# Altium integrated library Actel IGLOO nano.IntLib: 240 symbols (part 1 of 14)
Pins are listed as number, name and electrical type; pins without a type are passive.

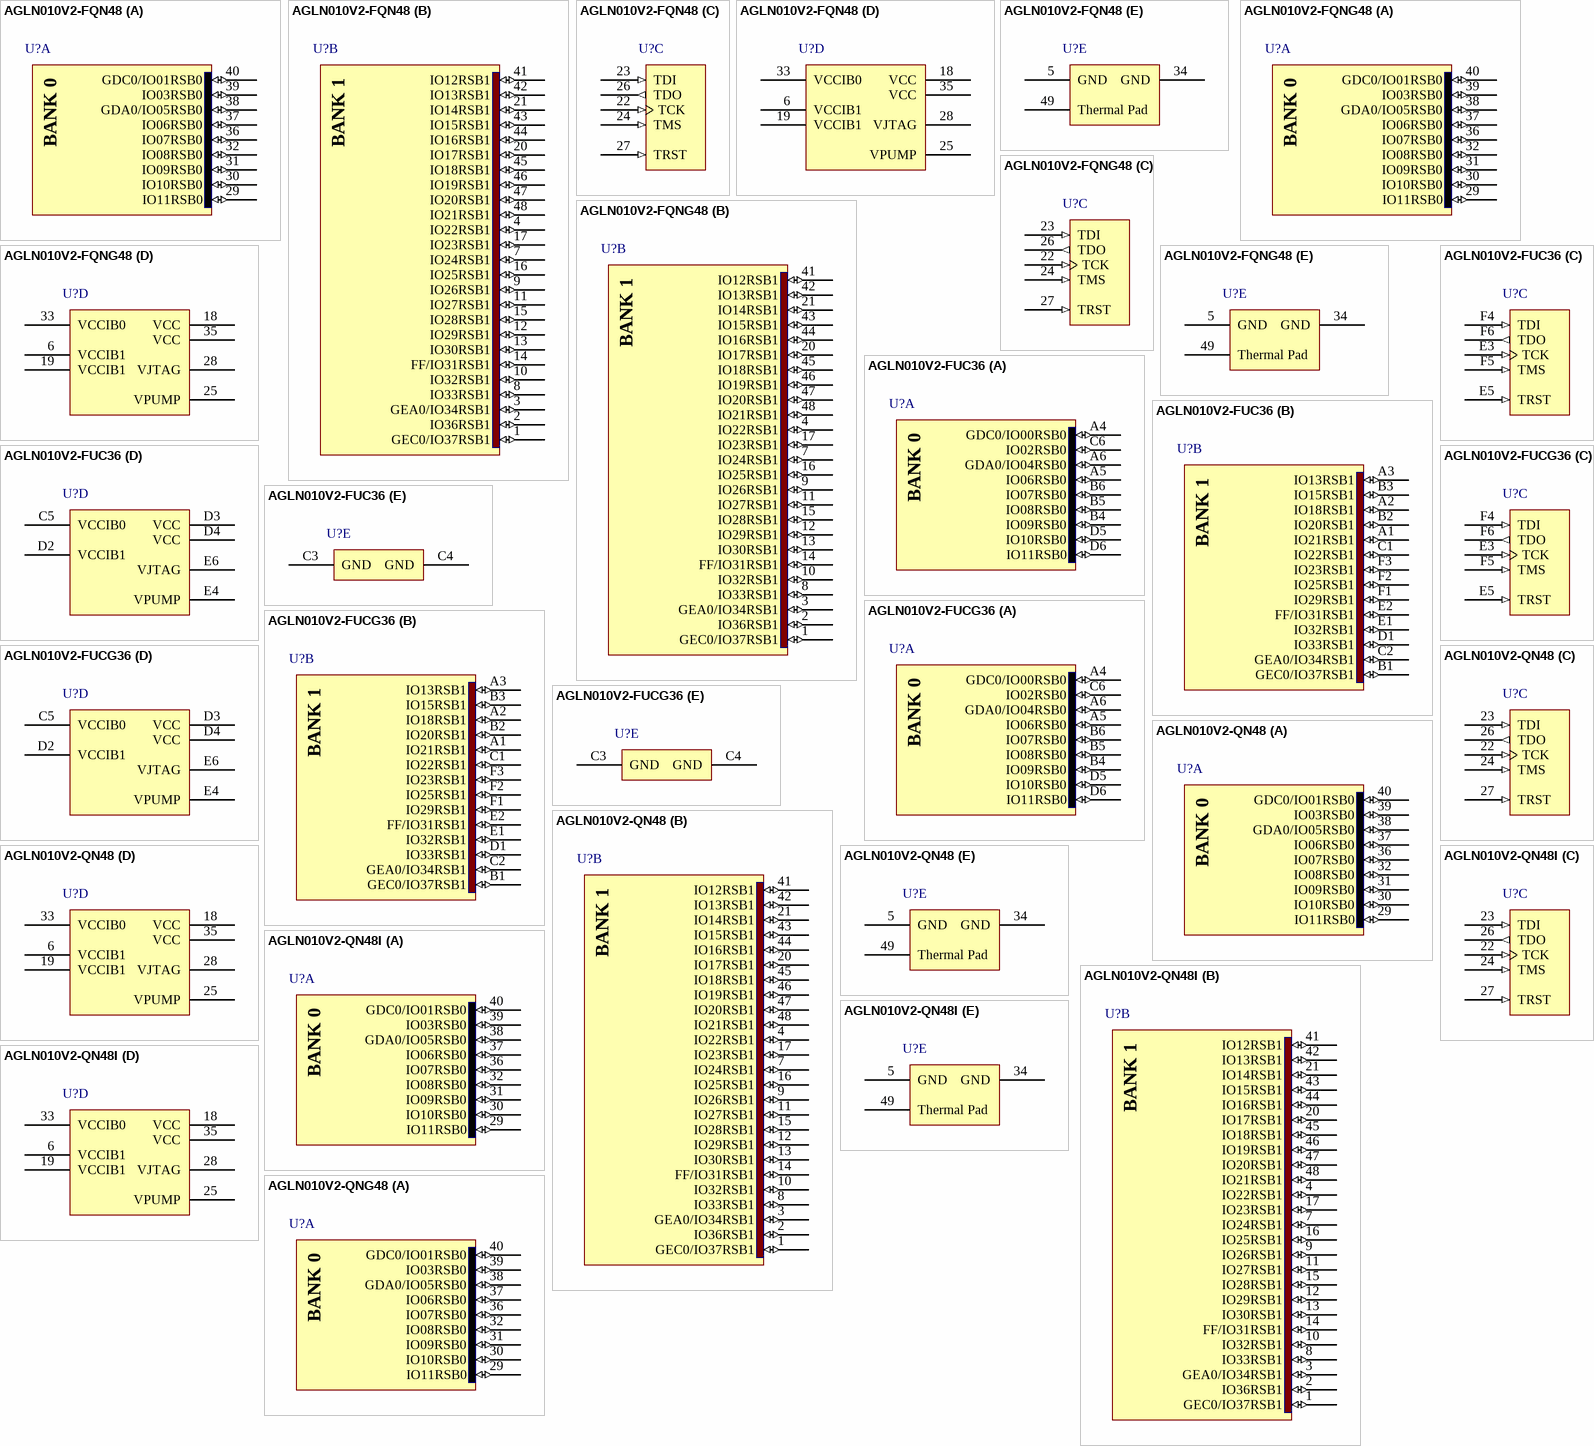
[diagram p0: symbols AGLN010V2-FQN48 to AGLN010V2-QNG48]

## AGLN010V2-FQN48
designator U?
IGLOO nano Low-Power Flash 1.2 to 1.5V FPGA with Flash*Freeze, 34 User IOs, 10K System Gates, 1Kbit Flash ROM, 48-Pin QFN, F Speed Grade, Commercial Grade; ComponentAvailability: F speed grade removed in ver0.7, Apr-2009 datasheet.; Published: 29-May-2009; DatasheetVersion: v0.6, Feb-2009; PackageVersion: ver11.2, Nov-2009; PackageReference: QN48; Publisher: Altium Limited; PackageDescription: 48-Pin Quad Flat No-Lead 0.4 mm Pitch (QN48); Code_JEDEC: MO-220-VLLE-1; ComponentLink1Description: IGLOO nano Datasheet; ComponentLink1URL: http://www.actel.com/documents/IGLOO_nano_DS.pdf; ComponentLink2Description: Package Mechanical Drawings; ComponentLink2URL: http://www.actel.com/documents/PckgMechDrwngs.pdf; ComponentLink3Description: IGLOO nano Documents; ComponentLink3URL: http://www.actel.com/products/igloonano/docs.aspx; ComponentLink4Description: Actel.com Home; ComponentLink4URL: http://www.actel.com/
footprint QN48_N (QFN, 48-Leads, Body 6x6 mm, Pitch 0.4mm, IPC Medium Density)
footprint QN48_L (QFN, 48-Leads, Body 6x6 mm, Pitch 0.4mm, IPC High Density)
footprint QN48_M (QFN, 48-Leads, Body 6x6 mm, Pitch 0.4mm, IPC Low Density)
signal-integrity model AGLN010-QN48 (IGLOO nano)
part A pins: 29 IO11RSB0 (io), 30 IO10RSB0 (io), 31 IO09RSB0 (io), 32 IO08RSB0 (io), 36 IO07RSB0 (io), 37 IO06RSB0 (io), 38 GDA0/IO05RSB0 (io), 39 IO03RSB0 (io), 40 GDC0/IO01RSB0 (io)
part B pins: 1 GEC0/IO37RSB1 (io), 2 IO36RSB1 (io), 3 GEA0/IO34RSB1 (io), 4 IO22RSB1 (io), 7 IO24RSB1 (io), 8 IO33RSB1 (io), 9 IO26RSB1 (io), 10 IO32RSB1 (io), 11 IO27RSB1 (io), 12 IO29RSB1 (io), 13 IO30RSB1 (io), 14 FF/IO31RSB1 (io), 15 IO28RSB1 (io), 16 IO25RSB1 (io), 17 IO23RSB1 (io), 20 IO17RSB1 (io), 21 IO14RSB1 (io), 41 IO12RSB1 (io), 42 IO13RSB1 (io), 43 IO15RSB1 (io), 44 IO16RSB1 (io), 45 IO18RSB1 (io), 46 IO19RSB1 (io), 47 IO20RSB1 (io), 48 IO21RSB1 (io)
part C pins: 22 TCK (in), 23 TDI (in), 24 TMS (in), 26 TDO (out), 27 TRST (in)
part D pins: 6 VCCIB1 (power), 18 VCC (power), 19 VCCIB1 (power), 25 VPUMP (power), 28 VJTAG (power), 33 VCCIB0 (power), 35 VCC (power)
part E pins: 5 GND (power), 34 GND (power), 49 Thermal Pad
part A text: BANK 0
part B text: BANK 1

## AGLN010V2-FQNG48
designator U?
IGLOO nano Low-Power Flash 1.2 to 1.5V FPGA with Flash*Freeze, 34 User IOs, 10K System Gates, 1Kbit Flash ROM, 48-Pin QFN, F Speed Grade, Commercial Grade, Pb-Free; ComponentAvailability: F speed grade removed in ver0.7, Apr-2009 datasheet.; Published: 29-May-2009; DatasheetVersion: v0.6, Feb-2009; PackageVersion: ver11.2, Nov-2009; PackageReference: QN48; Publisher: Altium Limited; PackageDescription: 48-Pin Quad Flat No-Lead 0.4 mm Pitch (QN48); Code_JEDEC: MO-220-VLLE-1; ComponentLink1Description: IGLOO nano Datasheet; ComponentLink1URL: http://www.actel.com/documents/IGLOO_nano_DS.pdf; ComponentLink2Description: Package Mechanical Drawings; ComponentLink2URL: http://www.actel.com/documents/PckgMechDrwngs.pdf; ComponentLink3Description: IGLOO nano Documents; ComponentLink3URL: http://www.actel.com/products/igloonano/docs.aspx; ComponentLink4Description: Actel.com Home; ComponentLink4URL: http://www.actel.com/
footprint QN48_N (QFN, 48-Leads, Body 6x6 mm, Pitch 0.4mm, IPC Medium Density)
footprint QN48_L (QFN, 48-Leads, Body 6x6 mm, Pitch 0.4mm, IPC High Density)
footprint QN48_M (QFN, 48-Leads, Body 6x6 mm, Pitch 0.4mm, IPC Low Density)
signal-integrity model AGLN010-QN48 (IGLOO nano)
part A pins: 29 IO11RSB0 (io), 30 IO10RSB0 (io), 31 IO09RSB0 (io), 32 IO08RSB0 (io), 36 IO07RSB0 (io), 37 IO06RSB0 (io), 38 GDA0/IO05RSB0 (io), 39 IO03RSB0 (io), 40 GDC0/IO01RSB0 (io)
part B pins: 1 GEC0/IO37RSB1 (io), 2 IO36RSB1 (io), 3 GEA0/IO34RSB1 (io), 4 IO22RSB1 (io), 7 IO24RSB1 (io), 8 IO33RSB1 (io), 9 IO26RSB1 (io), 10 IO32RSB1 (io), 11 IO27RSB1 (io), 12 IO29RSB1 (io), 13 IO30RSB1 (io), 14 FF/IO31RSB1 (io), 15 IO28RSB1 (io), 16 IO25RSB1 (io), 17 IO23RSB1 (io), 20 IO17RSB1 (io), 21 IO14RSB1 (io), 41 IO12RSB1 (io), 42 IO13RSB1 (io), 43 IO15RSB1 (io), 44 IO16RSB1 (io), 45 IO18RSB1 (io), 46 IO19RSB1 (io), 47 IO20RSB1 (io), 48 IO21RSB1 (io)
part C pins: 22 TCK (in), 23 TDI (in), 24 TMS (in), 26 TDO (out), 27 TRST (in)
part D pins: 6 VCCIB1 (power), 18 VCC (power), 19 VCCIB1 (power), 25 VPUMP (power), 28 VJTAG (power), 33 VCCIB0 (power), 35 VCC (power)
part E pins: 5 GND (power), 34 GND (power), 49 Thermal Pad
part A text: BANK 0
part B text: BANK 1

## AGLN010V2-FUC36
designator U?
IGLOO nano Low-Power Flash 1.2 to 1.5V FPGA with Flash*Freeze, 23 User IOs, 10K System Gates, 1Kbit Flash ROM, 36-Pin Micro CSP, F Speed Grade, Commercial Grade; ComponentAvailability: F speed grade removed in ver0.7, Apr-2009 datasheet.; Published: 29-May-2009; DatasheetVersion: v0.6, Feb-2009; PackageVersion: ver11.2, Nov-2009; PackageReference: uC36; Publisher: Altium Limited; PackageDescription: 36-Ball Chip Scale Ball Grid Array 0.4 mm Pitch (uC36); ComponentLink1Description: IGLOO nano Datasheet; ComponentLink1URL: http://www.actel.com/documents/IGLOO_nano_DS.pdf; ComponentLink2Description: Package Mechanical Drawings; ComponentLink2URL: http://www.actel.com/documents/PckgMechDrwngs.pdf; ComponentLink3Description: IGLOO nano Documents; ComponentLink3URL: http://www.actel.com/products/igloonano/docs.aspx; ComponentLink4Description: Actel.com Home; ComponentLink4URL: http://www.actel.com/
footprint UC36 (BGA, 36-Leads, Body 3x3mm, Pitch 0.4mm)
signal-integrity model AGLN010-UC36 (IGLOO nano)
part A pins: A4 GDC0/IO00RSB0 (io), A5 IO06RSB0 (io), A6 GDA0/IO04RSB0 (io), B4 IO09RSB0 (io), B5 IO08RSB0 (io), B6 IO07RSB0 (io), C6 IO02RSB0 (io), D5 IO10RSB0 (io), D6 IO11RSB0 (io)
part B pins: A1 IO21RSB1 (io), A2 IO18RSB1 (io), A3 IO13RSB1 (io), B1 GEC0/IO37RSB1 (io), B2 IO20RSB1 (io), B3 IO15RSB1 (io), C1 IO22RSB1 (io), C2 GEA0/IO34RSB1 (io), D1 IO33RSB1 (io), E1 IO32RSB1 (io), E2 FF/IO31RSB1 (io), F1 IO29RSB1 (io), F2 IO25RSB1 (io), F3 IO23RSB1 (io)
part C pins: E3 TCK (in), E5 TRST (in), F4 TDI (in), F5 TMS (in), F6 TDO (out)
part D pins: C5 VCCIB0 (power), D2 VCCIB1 (power), D3 VCC (power), D4 VCC (power), E4 VPUMP (power), E6 VJTAG (power)
part E pins: C3 GND (power), C4 GND (power)
part A text: BANK 0
part B text: BANK 1

## AGLN010V2-FUCG36
designator U?
IGLOO nano Low-Power Flash 1.2 to 1.5V FPGA with Flash*Freeze, 23 User IOs, 10K System Gates, 1Kbit Flash ROM, 36-Pin Micro CSP, F Speed Grade, Commercial Grade, Pb-Free; ComponentAvailability: F speed grade removed in ver0.7, Apr-2009 datasheet.; Published: 29-May-2009; DatasheetVersion: v0.6, Feb-2009; PackageVersion: ver11.2, Nov-2009; PackageReference: uC36; Publisher: Altium Limited; PackageDescription: 36-Ball Chip Scale Ball Grid Array 0.4 mm Pitch (uC36); ComponentLink1Description: IGLOO nano Datasheet; ComponentLink1URL: http://www.actel.com/documents/IGLOO_nano_DS.pdf; ComponentLink2Description: Package Mechanical Drawings; ComponentLink2URL: http://www.actel.com/documents/PckgMechDrwngs.pdf; ComponentLink3Description: IGLOO nano Documents; ComponentLink3URL: http://www.actel.com/products/igloonano/docs.aspx; ComponentLink4Description: Actel.com Home; ComponentLink4URL: http://www.actel.com/
footprint UC36 (BGA, 36-Leads, Body 3x3mm, Pitch 0.4mm)
signal-integrity model AGLN010-UC36 (IGLOO nano)
part A pins: A4 GDC0/IO00RSB0 (io), A5 IO06RSB0 (io), A6 GDA0/IO04RSB0 (io), B4 IO09RSB0 (io), B5 IO08RSB0 (io), B6 IO07RSB0 (io), C6 IO02RSB0 (io), D5 IO10RSB0 (io), D6 IO11RSB0 (io)
part B pins: A1 IO21RSB1 (io), A2 IO18RSB1 (io), A3 IO13RSB1 (io), B1 GEC0/IO37RSB1 (io), B2 IO20RSB1 (io), B3 IO15RSB1 (io), C1 IO22RSB1 (io), C2 GEA0/IO34RSB1 (io), D1 IO33RSB1 (io), E1 IO32RSB1 (io), E2 FF/IO31RSB1 (io), F1 IO29RSB1 (io), F2 IO25RSB1 (io), F3 IO23RSB1 (io)
part C pins: E3 TCK (in), E5 TRST (in), F4 TDI (in), F5 TMS (in), F6 TDO (out)
part D pins: C5 VCCIB0 (power), D2 VCCIB1 (power), D3 VCC (power), D4 VCC (power), E4 VPUMP (power), E6 VJTAG (power)
part E pins: C3 GND (power), C4 GND (power)
part A text: BANK 0
part B text: BANK 1

## AGLN010V2-QN48
designator U?
IGLOO nano Low-Power Flash 1.2 to 1.5V FPGA with Flash*Freeze, 34 User IOs, 10K System Gates, 1Kbit Flash ROM, 48-Pin QFN, Commercial Grade; Published: 29-May-2009; LatestRevisionDate: 26-Feb-2010; LatestRevisionNote: Updated to datasheet version 0.8 Jan-2010.; DatasheetVersion: v0.8, Jan-2010; PackageVersion: ver11.2, Nov-2009; PackageReference: QN48; Publisher: Altium Limited; PackageDescription: 48-Pin Quad Flat No-Lead 0.4 mm Pitch (QN48); Code_JEDEC: MO-220-VLLE-1; ComponentLink1Description: IGLOO nano Datasheet; ComponentLink1URL: http://www.actel.com/documents/IGLOO_nano_DS.pdf; ComponentLink2Description: Package Mechanical Drawings; ComponentLink2URL: http://www.actel.com/documents/PckgMechDrwngs.pdf; ComponentLink3Description: IGLOO nano Documents; ComponentLink3URL: http://www.actel.com/products/igloonano/docs.aspx; ComponentLink4Description: Actel.com Home; ComponentLink4URL: http://www.actel.com/
footprint QN48_N (QFN, 48-Leads, Body 6x6 mm, Pitch 0.4mm, IPC Medium Density)
footprint QN48_L (QFN, 48-Leads, Body 6x6 mm, Pitch 0.4mm, IPC High Density)
footprint QN48_M (QFN, 48-Leads, Body 6x6 mm, Pitch 0.4mm, IPC Low Density)
signal-integrity model AGLN010-QN48 (IGLOO nano)
part A pins: 29 IO11RSB0 (io), 30 IO10RSB0 (io), 31 IO09RSB0 (io), 32 IO08RSB0 (io), 36 IO07RSB0 (io), 37 IO06RSB0 (io), 38 GDA0/IO05RSB0 (io), 39 IO03RSB0 (io), 40 GDC0/IO01RSB0 (io)
part B pins: 1 GEC0/IO37RSB1 (io), 2 IO36RSB1 (io), 3 GEA0/IO34RSB1 (io), 4 IO22RSB1 (io), 7 IO24RSB1 (io), 8 IO33RSB1 (io), 9 IO26RSB1 (io), 10 IO32RSB1 (io), 11 IO27RSB1 (io), 12 IO29RSB1 (io), 13 IO30RSB1 (io), 14 FF/IO31RSB1 (io), 15 IO28RSB1 (io), 16 IO25RSB1 (io), 17 IO23RSB1 (io), 20 IO17RSB1 (io), 21 IO14RSB1 (io), 41 IO12RSB1 (io), 42 IO13RSB1 (io), 43 IO15RSB1 (io), 44 IO16RSB1 (io), 45 IO18RSB1 (io), 46 IO19RSB1 (io), 47 IO20RSB1 (io), 48 IO21RSB1 (io)
part C pins: 22 TCK (in), 23 TDI (in), 24 TMS (in), 26 TDO (out), 27 TRST (in)
part D pins: 6 VCCIB1 (power), 18 VCC (power), 19 VCCIB1 (power), 25 VPUMP (power), 28 VJTAG (power), 33 VCCIB0 (power), 35 VCC (power)
part E pins: 5 GND (power), 34 GND (power), 49 Thermal Pad
part A text: BANK 0
part B text: BANK 1

## AGLN010V2-QN48I
designator U?
IGLOO nano Low-Power Flash 1.2 to 1.5V FPGA with Flash*Freeze, 34 User IOs, 10K System Gates, 1Kbit Flash ROM, 48-Pin QFN, Industrial Grade; Published: 29-May-2009; LatestRevisionDate: 26-Feb-2010; LatestRevisionNote: Updated to datasheet version 0.8 Jan-2010.; DatasheetVersion: v0.8, Jan-2010; PackageVersion: ver11.2, Nov-2009; PackageReference: QN48; Publisher: Altium Limited; PackageDescription: 48-Pin Quad Flat No-Lead 0.4 mm Pitch (QN48); Code_JEDEC: MO-220-VLLE-1; ComponentLink1Description: IGLOO nano Datasheet; ComponentLink1URL: http://www.actel.com/documents/IGLOO_nano_DS.pdf; ComponentLink2Description: Package Mechanical Drawings; ComponentLink2URL: http://www.actel.com/documents/PckgMechDrwngs.pdf; ComponentLink3Description: IGLOO nano Documents; ComponentLink3URL: http://www.actel.com/products/igloonano/docs.aspx; ComponentLink4Description: Actel.com Home; ComponentLink4URL: http://www.actel.com/
footprint QN48_N (QFN, 48-Leads, Body 6x6 mm, Pitch 0.4mm, IPC Medium Density)
footprint QN48_L (QFN, 48-Leads, Body 6x6 mm, Pitch 0.4mm, IPC High Density)
footprint QN48_M (QFN, 48-Leads, Body 6x6 mm, Pitch 0.4mm, IPC Low Density)
signal-integrity model AGLN010-QN48 (IGLOO nano)
part A pins: 29 IO11RSB0 (io), 30 IO10RSB0 (io), 31 IO09RSB0 (io), 32 IO08RSB0 (io), 36 IO07RSB0 (io), 37 IO06RSB0 (io), 38 GDA0/IO05RSB0 (io), 39 IO03RSB0 (io), 40 GDC0/IO01RSB0 (io)
part B pins: 1 GEC0/IO37RSB1 (io), 2 IO36RSB1 (io), 3 GEA0/IO34RSB1 (io), 4 IO22RSB1 (io), 7 IO24RSB1 (io), 8 IO33RSB1 (io), 9 IO26RSB1 (io), 10 IO32RSB1 (io), 11 IO27RSB1 (io), 12 IO29RSB1 (io), 13 IO30RSB1 (io), 14 FF/IO31RSB1 (io), 15 IO28RSB1 (io), 16 IO25RSB1 (io), 17 IO23RSB1 (io), 20 IO17RSB1 (io), 21 IO14RSB1 (io), 41 IO12RSB1 (io), 42 IO13RSB1 (io), 43 IO15RSB1 (io), 44 IO16RSB1 (io), 45 IO18RSB1 (io), 46 IO19RSB1 (io), 47 IO20RSB1 (io), 48 IO21RSB1 (io)
part C pins: 22 TCK (in), 23 TDI (in), 24 TMS (in), 26 TDO (out), 27 TRST (in)
part D pins: 6 VCCIB1 (power), 18 VCC (power), 19 VCCIB1 (power), 25 VPUMP (power), 28 VJTAG (power), 33 VCCIB0 (power), 35 VCC (power)
part E pins: 5 GND (power), 34 GND (power), 49 Thermal Pad
part A text: BANK 0
part B text: BANK 1

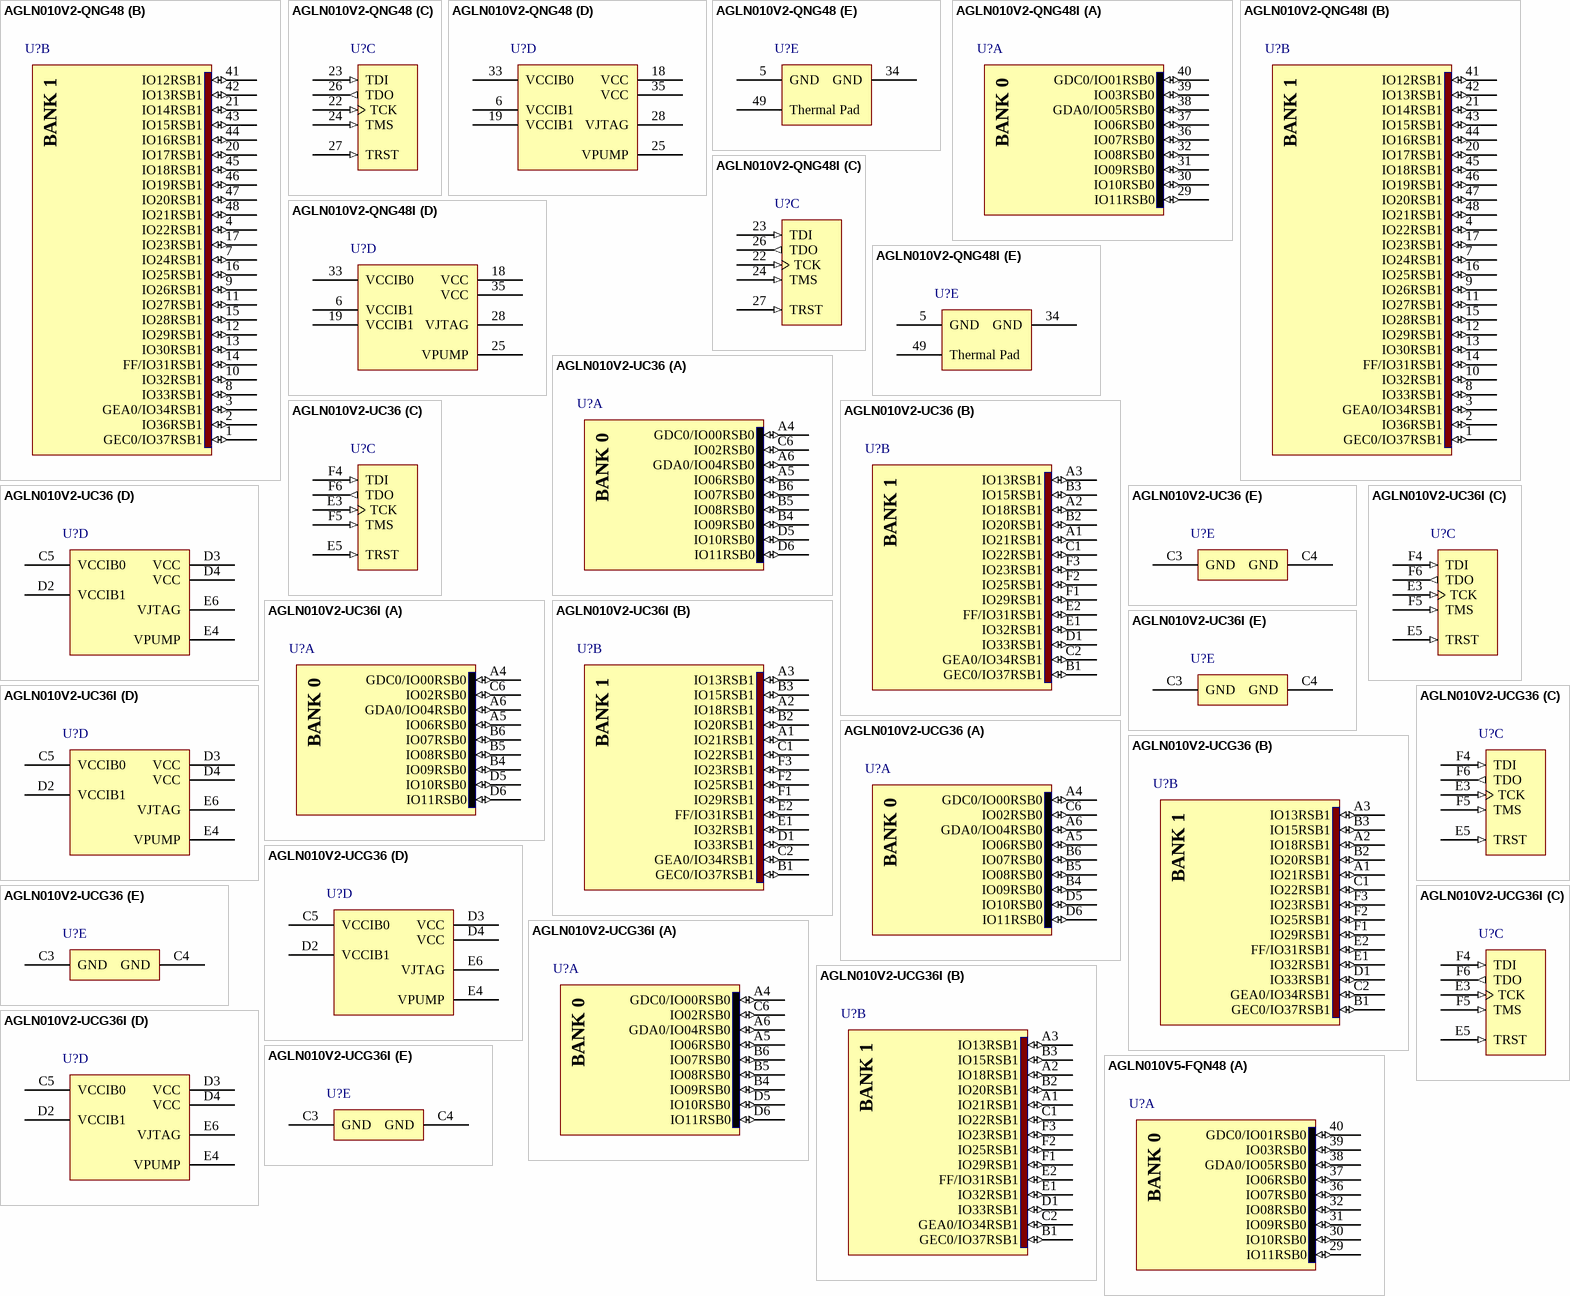
[diagram p1: symbols AGLN010V2-QNG48 to AGLN010V5-FQN48]

## AGLN010V2-QNG48
designator U?
IGLOO nano Low-Power Flash 1.2 to 1.5V FPGA with Flash*Freeze, 34 User IOs, 10K System Gates, 1Kbit Flash ROM, 48-Pin QFN, Commercial Grade, Pb-Free; Published: 29-May-2009; LatestRevisionDate: 26-Feb-2010; LatestRevisionNote: Updated to datasheet version 0.8 Jan-2010.; DatasheetVersion: v0.8, Jan-2010; PackageVersion: ver11.2, Nov-2009; PackageReference: QN48; Publisher: Altium Limited; PackageDescription: 48-Pin Quad Flat No-Lead 0.4 mm Pitch (QN48); Code_JEDEC: MO-220-VLLE-1; ComponentLink1Description: IGLOO nano Datasheet; ComponentLink1URL: http://www.actel.com/documents/IGLOO_nano_DS.pdf; ComponentLink2Description: Package Mechanical Drawings; ComponentLink2URL: http://www.actel.com/documents/PckgMechDrwngs.pdf; ComponentLink3Description: IGLOO nano Documents; ComponentLink3URL: http://www.actel.com/products/igloonano/docs.aspx; ComponentLink4Description: Actel.com Home; ComponentLink4URL: http://www.actel.com/
footprint QN48_N (QFN, 48-Leads, Body 6x6 mm, Pitch 0.4mm, IPC Medium Density)
footprint QN48_L (QFN, 48-Leads, Body 6x6 mm, Pitch 0.4mm, IPC High Density)
footprint QN48_M (QFN, 48-Leads, Body 6x6 mm, Pitch 0.4mm, IPC Low Density)
signal-integrity model AGLN010-QN48 (IGLOO nano)
part A pins: 29 IO11RSB0 (io), 30 IO10RSB0 (io), 31 IO09RSB0 (io), 32 IO08RSB0 (io), 36 IO07RSB0 (io), 37 IO06RSB0 (io), 38 GDA0/IO05RSB0 (io), 39 IO03RSB0 (io), 40 GDC0/IO01RSB0 (io)
part B pins: 1 GEC0/IO37RSB1 (io), 2 IO36RSB1 (io), 3 GEA0/IO34RSB1 (io), 4 IO22RSB1 (io), 7 IO24RSB1 (io), 8 IO33RSB1 (io), 9 IO26RSB1 (io), 10 IO32RSB1 (io), 11 IO27RSB1 (io), 12 IO29RSB1 (io), 13 IO30RSB1 (io), 14 FF/IO31RSB1 (io), 15 IO28RSB1 (io), 16 IO25RSB1 (io), 17 IO23RSB1 (io), 20 IO17RSB1 (io), 21 IO14RSB1 (io), 41 IO12RSB1 (io), 42 IO13RSB1 (io), 43 IO15RSB1 (io), 44 IO16RSB1 (io), 45 IO18RSB1 (io), 46 IO19RSB1 (io), 47 IO20RSB1 (io), 48 IO21RSB1 (io)
part C pins: 22 TCK (in), 23 TDI (in), 24 TMS (in), 26 TDO (out), 27 TRST (in)
part D pins: 6 VCCIB1 (power), 18 VCC (power), 19 VCCIB1 (power), 25 VPUMP (power), 28 VJTAG (power), 33 VCCIB0 (power), 35 VCC (power)
part E pins: 5 GND (power), 34 GND (power), 49 Thermal Pad
part A text: BANK 0
part B text: BANK 1

## AGLN010V2-QNG48I
designator U?
IGLOO nano Low-Power Flash 1.2 to 1.5V FPGA with Flash*Freeze, 34 User IOs, 10K System Gates, 1Kbit Flash ROM, 48-Pin QFN, Industrial Grade, Pb-Free; Published: 29-May-2009; LatestRevisionDate: 26-Feb-2010; LatestRevisionNote: Updated to datasheet version 0.8 Jan-2010.; DatasheetVersion: v0.8, Jan-2010; PackageVersion: ver11.2, Nov-2009; PackageReference: QN48; Publisher: Altium Limited; PackageDescription: 48-Pin Quad Flat No-Lead 0.4 mm Pitch (QN48); Code_JEDEC: MO-220-VLLE-1; ComponentLink1Description: IGLOO nano Datasheet; ComponentLink1URL: http://www.actel.com/documents/IGLOO_nano_DS.pdf; ComponentLink2Description: Package Mechanical Drawings; ComponentLink2URL: http://www.actel.com/documents/PckgMechDrwngs.pdf; ComponentLink3Description: IGLOO nano Documents; ComponentLink3URL: http://www.actel.com/products/igloonano/docs.aspx; ComponentLink4Description: Actel.com Home; ComponentLink4URL: http://www.actel.com/
footprint QN48_N (QFN, 48-Leads, Body 6x6 mm, Pitch 0.4mm, IPC Medium Density)
footprint QN48_L (QFN, 48-Leads, Body 6x6 mm, Pitch 0.4mm, IPC High Density)
footprint QN48_M (QFN, 48-Leads, Body 6x6 mm, Pitch 0.4mm, IPC Low Density)
signal-integrity model AGLN010-QN48 (IGLOO nano)
part A pins: 29 IO11RSB0 (io), 30 IO10RSB0 (io), 31 IO09RSB0 (io), 32 IO08RSB0 (io), 36 IO07RSB0 (io), 37 IO06RSB0 (io), 38 GDA0/IO05RSB0 (io), 39 IO03RSB0 (io), 40 GDC0/IO01RSB0 (io)
part B pins: 1 GEC0/IO37RSB1 (io), 2 IO36RSB1 (io), 3 GEA0/IO34RSB1 (io), 4 IO22RSB1 (io), 7 IO24RSB1 (io), 8 IO33RSB1 (io), 9 IO26RSB1 (io), 10 IO32RSB1 (io), 11 IO27RSB1 (io), 12 IO29RSB1 (io), 13 IO30RSB1 (io), 14 FF/IO31RSB1 (io), 15 IO28RSB1 (io), 16 IO25RSB1 (io), 17 IO23RSB1 (io), 20 IO17RSB1 (io), 21 IO14RSB1 (io), 41 IO12RSB1 (io), 42 IO13RSB1 (io), 43 IO15RSB1 (io), 44 IO16RSB1 (io), 45 IO18RSB1 (io), 46 IO19RSB1 (io), 47 IO20RSB1 (io), 48 IO21RSB1 (io)
part C pins: 22 TCK (in), 23 TDI (in), 24 TMS (in), 26 TDO (out), 27 TRST (in)
part D pins: 6 VCCIB1 (power), 18 VCC (power), 19 VCCIB1 (power), 25 VPUMP (power), 28 VJTAG (power), 33 VCCIB0 (power), 35 VCC (power)
part E pins: 5 GND (power), 34 GND (power), 49 Thermal Pad
part A text: BANK 0
part B text: BANK 1

## AGLN010V2-UC36
designator U?
IGLOO nano Low-Power Flash 1.2 to 1.5V FPGA with Flash*Freeze, 23 User IOs, 10K System Gates, 1Kbit Flash ROM, 36-Pin Micro CSP, Commercial Grade; Published: 29-May-2009; LatestRevisionDate: 26-Feb-2010; LatestRevisionNote: Updated to datasheet version 0.8 Jan-2010.; DatasheetVersion: v0.8, Jan-2010; PackageVersion: ver11.2, Nov-2009; PackageReference: uC36; Publisher: Altium Limited; PackageDescription: 36-Ball Chip Scale Ball Grid Array 0.4 mm Pitch (uC36); ComponentLink1Description: IGLOO nano Datasheet; ComponentLink1URL: http://www.actel.com/documents/IGLOO_nano_DS.pdf; ComponentLink2Description: Package Mechanical Drawings; ComponentLink2URL: http://www.actel.com/documents/PckgMechDrwngs.pdf; ComponentLink3Description: IGLOO nano Documents; ComponentLink3URL: http://www.actel.com/products/igloonano/docs.aspx; ComponentLink4Description: Actel.com Home; ComponentLink4URL: http://www.actel.com/
footprint UC36 (BGA, 36-Leads, Body 3x3mm, Pitch 0.4mm)
signal-integrity model AGLN010-UC36 (IGLOO nano)
part A pins: A4 GDC0/IO00RSB0 (io), A5 IO06RSB0 (io), A6 GDA0/IO04RSB0 (io), B4 IO09RSB0 (io), B5 IO08RSB0 (io), B6 IO07RSB0 (io), C6 IO02RSB0 (io), D5 IO10RSB0 (io), D6 IO11RSB0 (io)
part B pins: A1 IO21RSB1 (io), A2 IO18RSB1 (io), A3 IO13RSB1 (io), B1 GEC0/IO37RSB1 (io), B2 IO20RSB1 (io), B3 IO15RSB1 (io), C1 IO22RSB1 (io), C2 GEA0/IO34RSB1 (io), D1 IO33RSB1 (io), E1 IO32RSB1 (io), E2 FF/IO31RSB1 (io), F1 IO29RSB1 (io), F2 IO25RSB1 (io), F3 IO23RSB1 (io)
part C pins: E3 TCK (in), E5 TRST (in), F4 TDI (in), F5 TMS (in), F6 TDO (out)
part D pins: C5 VCCIB0 (power), D2 VCCIB1 (power), D3 VCC (power), D4 VCC (power), E4 VPUMP (power), E6 VJTAG (power)
part E pins: C3 GND (power), C4 GND (power)
part A text: BANK 0
part B text: BANK 1

## AGLN010V2-UC36I
designator U?
IGLOO nano Low-Power Flash 1.2 to 1.5V FPGA with Flash*Freeze, 23 User IOs, 10K System Gates, 1Kbit Flash ROM, 36-Pin Micro CSP, Industrial Grade; Published: 29-May-2009; LatestRevisionDate: 26-Feb-2010; LatestRevisionNote: Updated to datasheet version 0.8 Jan-2010.; DatasheetVersion: v0.8, Jan-2010; PackageVersion: ver11.2, Nov-2009; PackageReference: uC36; Publisher: Altium Limited; PackageDescription: 36-Ball Chip Scale Ball Grid Array 0.4 mm Pitch (uC36); ComponentLink1Description: IGLOO nano Datasheet; ComponentLink1URL: http://www.actel.com/documents/IGLOO_nano_DS.pdf; ComponentLink2Description: Package Mechanical Drawings; ComponentLink2URL: http://www.actel.com/documents/PckgMechDrwngs.pdf; ComponentLink3Description: IGLOO nano Documents; ComponentLink3URL: http://www.actel.com/products/igloonano/docs.aspx; ComponentLink4Description: Actel.com Home; ComponentLink4URL: http://www.actel.com/
footprint UC36 (BGA, 36-Leads, Body 3x3mm, Pitch 0.4mm)
signal-integrity model AGLN010-UC36 (IGLOO nano)
part A pins: A4 GDC0/IO00RSB0 (io), A5 IO06RSB0 (io), A6 GDA0/IO04RSB0 (io), B4 IO09RSB0 (io), B5 IO08RSB0 (io), B6 IO07RSB0 (io), C6 IO02RSB0 (io), D5 IO10RSB0 (io), D6 IO11RSB0 (io)
part B pins: A1 IO21RSB1 (io), A2 IO18RSB1 (io), A3 IO13RSB1 (io), B1 GEC0/IO37RSB1 (io), B2 IO20RSB1 (io), B3 IO15RSB1 (io), C1 IO22RSB1 (io), C2 GEA0/IO34RSB1 (io), D1 IO33RSB1 (io), E1 IO32RSB1 (io), E2 FF/IO31RSB1 (io), F1 IO29RSB1 (io), F2 IO25RSB1 (io), F3 IO23RSB1 (io)
part C pins: E3 TCK (in), E5 TRST (in), F4 TDI (in), F5 TMS (in), F6 TDO (out)
part D pins: C5 VCCIB0 (power), D2 VCCIB1 (power), D3 VCC (power), D4 VCC (power), E4 VPUMP (power), E6 VJTAG (power)
part E pins: C3 GND (power), C4 GND (power)
part A text: BANK 0
part B text: BANK 1

## AGLN010V2-UCG36
designator U?
IGLOO nano Low-Power Flash 1.2 to 1.5V FPGA with Flash*Freeze, 23 User IOs, 10K System Gates, 1Kbit Flash ROM, 36-Pin Micro CSP, Commercial Grade, Pb-Free; Published: 29-May-2009; LatestRevisionDate: 26-Feb-2010; LatestRevisionNote: Updated to datasheet version 0.8 Jan-2010.; DatasheetVersion: v0.8, Jan-2010; PackageVersion: ver11.2, Nov-2009; PackageReference: uC36; Publisher: Altium Limited; PackageDescription: 36-Ball Chip Scale Ball Grid Array 0.4 mm Pitch (uC36); ComponentLink1Description: IGLOO nano Datasheet; ComponentLink1URL: http://www.actel.com/documents/IGLOO_nano_DS.pdf; ComponentLink2Description: Package Mechanical Drawings; ComponentLink2URL: http://www.actel.com/documents/PckgMechDrwngs.pdf; ComponentLink3Description: IGLOO nano Documents; ComponentLink3URL: http://www.actel.com/products/igloonano/docs.aspx; ComponentLink4Description: Actel.com Home; ComponentLink4URL: http://www.actel.com/
footprint UC36 (BGA, 36-Leads, Body 3x3mm, Pitch 0.4mm)
signal-integrity model AGLN010-UC36 (IGLOO nano)
part A pins: A4 GDC0/IO00RSB0 (io), A5 IO06RSB0 (io), A6 GDA0/IO04RSB0 (io), B4 IO09RSB0 (io), B5 IO08RSB0 (io), B6 IO07RSB0 (io), C6 IO02RSB0 (io), D5 IO10RSB0 (io), D6 IO11RSB0 (io)
part B pins: A1 IO21RSB1 (io), A2 IO18RSB1 (io), A3 IO13RSB1 (io), B1 GEC0/IO37RSB1 (io), B2 IO20RSB1 (io), B3 IO15RSB1 (io), C1 IO22RSB1 (io), C2 GEA0/IO34RSB1 (io), D1 IO33RSB1 (io), E1 IO32RSB1 (io), E2 FF/IO31RSB1 (io), F1 IO29RSB1 (io), F2 IO25RSB1 (io), F3 IO23RSB1 (io)
part C pins: E3 TCK (in), E5 TRST (in), F4 TDI (in), F5 TMS (in), F6 TDO (out)
part D pins: C5 VCCIB0 (power), D2 VCCIB1 (power), D3 VCC (power), D4 VCC (power), E4 VPUMP (power), E6 VJTAG (power)
part E pins: C3 GND (power), C4 GND (power)
part A text: BANK 0
part B text: BANK 1

## AGLN010V2-UCG36I
designator U?
IGLOO nano Low-Power Flash 1.2 to 1.5V FPGA with Flash*Freeze, 23 User IOs, 10K System Gates, 1Kbit Flash ROM, 36-Pin Micro CSP, Industrial Grade, Pb-Free; Published: 29-May-2009; LatestRevisionDate: 26-Feb-2010; LatestRevisionNote: Updated to datasheet version 0.8 Jan-2010.; DatasheetVersion: v0.8, Jan-2010; PackageVersion: ver11.2, Nov-2009; PackageReference: uC36; Publisher: Altium Limited; PackageDescription: 36-Ball Chip Scale Ball Grid Array 0.4 mm Pitch (uC36); ComponentLink1Description: IGLOO nano Datasheet; ComponentLink1URL: http://www.actel.com/documents/IGLOO_nano_DS.pdf; ComponentLink2Description: Package Mechanical Drawings; ComponentLink2URL: http://www.actel.com/documents/PckgMechDrwngs.pdf; ComponentLink3Description: IGLOO nano Documents; ComponentLink3URL: http://www.actel.com/products/igloonano/docs.aspx; ComponentLink4Description: Actel.com Home; ComponentLink4URL: http://www.actel.com/
footprint UC36 (BGA, 36-Leads, Body 3x3mm, Pitch 0.4mm)
signal-integrity model AGLN010-UC36 (IGLOO nano)
part A pins: A4 GDC0/IO00RSB0 (io), A5 IO06RSB0 (io), A6 GDA0/IO04RSB0 (io), B4 IO09RSB0 (io), B5 IO08RSB0 (io), B6 IO07RSB0 (io), C6 IO02RSB0 (io), D5 IO10RSB0 (io), D6 IO11RSB0 (io)
part B pins: A1 IO21RSB1 (io), A2 IO18RSB1 (io), A3 IO13RSB1 (io), B1 GEC0/IO37RSB1 (io), B2 IO20RSB1 (io), B3 IO15RSB1 (io), C1 IO22RSB1 (io), C2 GEA0/IO34RSB1 (io), D1 IO33RSB1 (io), E1 IO32RSB1 (io), E2 FF/IO31RSB1 (io), F1 IO29RSB1 (io), F2 IO25RSB1 (io), F3 IO23RSB1 (io)
part C pins: E3 TCK (in), E5 TRST (in), F4 TDI (in), F5 TMS (in), F6 TDO (out)
part D pins: C5 VCCIB0 (power), D2 VCCIB1 (power), D3 VCC (power), D4 VCC (power), E4 VPUMP (power), E6 VJTAG (power)
part E pins: C3 GND (power), C4 GND (power)
part A text: BANK 0
part B text: BANK 1

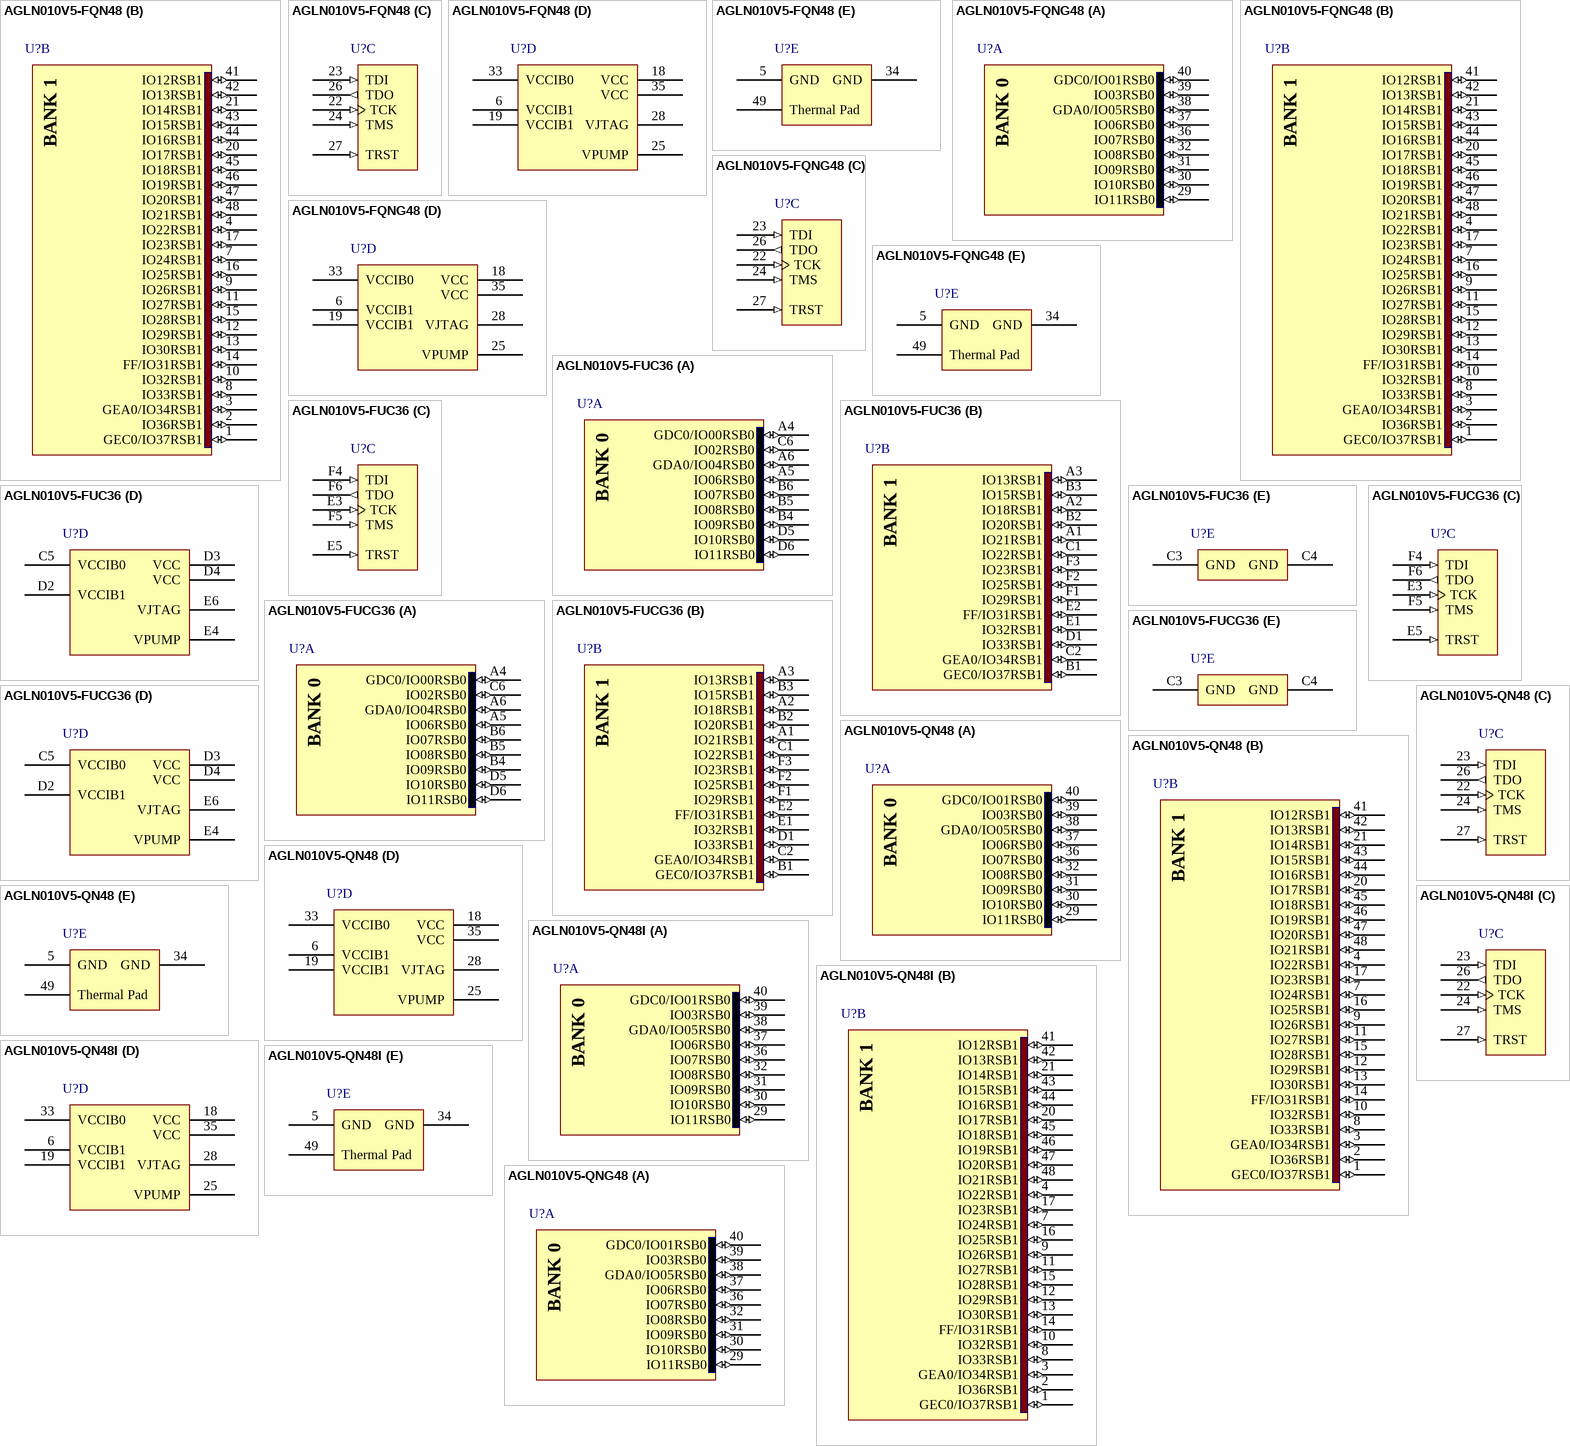
[diagram p2: symbols AGLN010V5-FQN48 to AGLN010V5-QNG48]

## AGLN010V5-FQN48
designator U?
IGLOO nano Low-Power Flash 1.5V FPGA with Flash*Freeze, 34 User IOs, 10K System Gates, 1Kbit Flash ROM, 48-Pin QFN, F Speed Grade, Commercial Grade; ComponentAvailability: F speed grade removed in ver0.7, Apr-2009 datasheet.; Published: 29-May-2009; DatasheetVersion: v0.6, Feb-2009; PackageVersion: ver11.2, Nov-2009; PackageReference: QN48; Publisher: Altium Limited; PackageDescription: 48-Pin Quad Flat No-Lead 0.4 mm Pitch (QN48); Code_JEDEC: MO-220-VLLE-1; ComponentLink1Description: IGLOO nano Datasheet; ComponentLink1URL: http://www.actel.com/documents/IGLOO_nano_DS.pdf; ComponentLink2Description: Package Mechanical Drawings; ComponentLink2URL: http://www.actel.com/documents/PckgMechDrwngs.pdf; ComponentLink3Description: IGLOO nano Documents; ComponentLink3URL: http://www.actel.com/products/igloonano/docs.aspx; ComponentLink4Description: Actel.com Home; ComponentLink4URL: http://www.actel.com/
footprint QN48_N (QFN, 48-Leads, Body 6x6 mm, Pitch 0.4mm, IPC Medium Density)
footprint QN48_L (QFN, 48-Leads, Body 6x6 mm, Pitch 0.4mm, IPC High Density)
footprint QN48_M (QFN, 48-Leads, Body 6x6 mm, Pitch 0.4mm, IPC Low Density)
signal-integrity model AGLN010-QN48 (IGLOO nano)
part A pins: 29 IO11RSB0 (io), 30 IO10RSB0 (io), 31 IO09RSB0 (io), 32 IO08RSB0 (io), 36 IO07RSB0 (io), 37 IO06RSB0 (io), 38 GDA0/IO05RSB0 (io), 39 IO03RSB0 (io), 40 GDC0/IO01RSB0 (io)
part B pins: 1 GEC0/IO37RSB1 (io), 2 IO36RSB1 (io), 3 GEA0/IO34RSB1 (io), 4 IO22RSB1 (io), 7 IO24RSB1 (io), 8 IO33RSB1 (io), 9 IO26RSB1 (io), 10 IO32RSB1 (io), 11 IO27RSB1 (io), 12 IO29RSB1 (io), 13 IO30RSB1 (io), 14 FF/IO31RSB1 (io), 15 IO28RSB1 (io), 16 IO25RSB1 (io), 17 IO23RSB1 (io), 20 IO17RSB1 (io), 21 IO14RSB1 (io), 41 IO12RSB1 (io), 42 IO13RSB1 (io), 43 IO15RSB1 (io), 44 IO16RSB1 (io), 45 IO18RSB1 (io), 46 IO19RSB1 (io), 47 IO20RSB1 (io), 48 IO21RSB1 (io)
part C pins: 22 TCK (in), 23 TDI (in), 24 TMS (in), 26 TDO (out), 27 TRST (in)
part D pins: 6 VCCIB1 (power), 18 VCC (power), 19 VCCIB1 (power), 25 VPUMP (power), 28 VJTAG (power), 33 VCCIB0 (power), 35 VCC (power)
part E pins: 5 GND (power), 34 GND (power), 49 Thermal Pad
part A text: BANK 0
part B text: BANK 1

## AGLN010V5-FQNG48
designator U?
IGLOO nano Low-Power Flash 1.5V FPGA with Flash*Freeze, 34 User IOs, 10K System Gates, 1Kbit Flash ROM, 48-Pin QFN, F Speed Grade, Commercial Grade, Pb-Free; ComponentAvailability: F speed grade removed in ver0.7, Apr-2009 datasheet.; Published: 29-May-2009; DatasheetVersion: v0.6, Feb-2009; PackageVersion: ver11.2, Nov-2009; PackageReference: QN48; Publisher: Altium Limited; PackageDescription: 48-Pin Quad Flat No-Lead 0.4 mm Pitch (QN48); Code_JEDEC: MO-220-VLLE-1; ComponentLink1Description: IGLOO nano Datasheet; ComponentLink1URL: http://www.actel.com/documents/IGLOO_nano_DS.pdf; ComponentLink2Description: Package Mechanical Drawings; ComponentLink2URL: http://www.actel.com/documents/PckgMechDrwngs.pdf; ComponentLink3Description: IGLOO nano Documents; ComponentLink3URL: http://www.actel.com/products/igloonano/docs.aspx; ComponentLink4Description: Actel.com Home; ComponentLink4URL: http://www.actel.com/
footprint QN48_N (QFN, 48-Leads, Body 6x6 mm, Pitch 0.4mm, IPC Medium Density)
footprint QN48_L (QFN, 48-Leads, Body 6x6 mm, Pitch 0.4mm, IPC High Density)
footprint QN48_M (QFN, 48-Leads, Body 6x6 mm, Pitch 0.4mm, IPC Low Density)
signal-integrity model AGLN010-QN48 (IGLOO nano)
part A pins: 29 IO11RSB0 (io), 30 IO10RSB0 (io), 31 IO09RSB0 (io), 32 IO08RSB0 (io), 36 IO07RSB0 (io), 37 IO06RSB0 (io), 38 GDA0/IO05RSB0 (io), 39 IO03RSB0 (io), 40 GDC0/IO01RSB0 (io)
part B pins: 1 GEC0/IO37RSB1 (io), 2 IO36RSB1 (io), 3 GEA0/IO34RSB1 (io), 4 IO22RSB1 (io), 7 IO24RSB1 (io), 8 IO33RSB1 (io), 9 IO26RSB1 (io), 10 IO32RSB1 (io), 11 IO27RSB1 (io), 12 IO29RSB1 (io), 13 IO30RSB1 (io), 14 FF/IO31RSB1 (io), 15 IO28RSB1 (io), 16 IO25RSB1 (io), 17 IO23RSB1 (io), 20 IO17RSB1 (io), 21 IO14RSB1 (io), 41 IO12RSB1 (io), 42 IO13RSB1 (io), 43 IO15RSB1 (io), 44 IO16RSB1 (io), 45 IO18RSB1 (io), 46 IO19RSB1 (io), 47 IO20RSB1 (io), 48 IO21RSB1 (io)
part C pins: 22 TCK (in), 23 TDI (in), 24 TMS (in), 26 TDO (out), 27 TRST (in)
part D pins: 6 VCCIB1 (power), 18 VCC (power), 19 VCCIB1 (power), 25 VPUMP (power), 28 VJTAG (power), 33 VCCIB0 (power), 35 VCC (power)
part E pins: 5 GND (power), 34 GND (power), 49 Thermal Pad
part A text: BANK 0
part B text: BANK 1

## AGLN010V5-FUC36
designator U?
IGLOO nano Low-Power Flash 1.5V FPGA with Flash*Freeze, 23 User IOs, 10K System Gates, 1Kbit Flash ROM, 36-Pin Micro CSP, F Speed Grade, Commercial Grade; ComponentAvailability: F speed grade removed in ver0.7, Apr-2009 datasheet.; Published: 29-May-2009; DatasheetVersion: v0.6, Feb-2009; PackageVersion: ver11.2, Nov-2009; PackageReference: uC36; Publisher: Altium Limited; PackageDescription: 36-Ball Chip Scale Ball Grid Array 0.4 mm Pitch (uC36); ComponentLink1Description: IGLOO nano Datasheet; ComponentLink1URL: http://www.actel.com/documents/IGLOO_nano_DS.pdf; ComponentLink2Description: Package Mechanical Drawings; ComponentLink2URL: http://www.actel.com/documents/PckgMechDrwngs.pdf; ComponentLink3Description: IGLOO nano Documents; ComponentLink3URL: http://www.actel.com/products/igloonano/docs.aspx; ComponentLink4Description: Actel.com Home; ComponentLink4URL: http://www.actel.com/
footprint UC36 (BGA, 36-Leads, Body 3x3mm, Pitch 0.4mm)
signal-integrity model AGLN010-UC36 (IGLOO nano)
part A pins: A4 GDC0/IO00RSB0 (io), A5 IO06RSB0 (io), A6 GDA0/IO04RSB0 (io), B4 IO09RSB0 (io), B5 IO08RSB0 (io), B6 IO07RSB0 (io), C6 IO02RSB0 (io), D5 IO10RSB0 (io), D6 IO11RSB0 (io)
part B pins: A1 IO21RSB1 (io), A2 IO18RSB1 (io), A3 IO13RSB1 (io), B1 GEC0/IO37RSB1 (io), B2 IO20RSB1 (io), B3 IO15RSB1 (io), C1 IO22RSB1 (io), C2 GEA0/IO34RSB1 (io), D1 IO33RSB1 (io), E1 IO32RSB1 (io), E2 FF/IO31RSB1 (io), F1 IO29RSB1 (io), F2 IO25RSB1 (io), F3 IO23RSB1 (io)
part C pins: E3 TCK (in), E5 TRST (in), F4 TDI (in), F5 TMS (in), F6 TDO (out)
part D pins: C5 VCCIB0 (power), D2 VCCIB1 (power), D3 VCC (power), D4 VCC (power), E4 VPUMP (power), E6 VJTAG (power)
part E pins: C3 GND (power), C4 GND (power)
part A text: BANK 0
part B text: BANK 1

## AGLN010V5-FUCG36
designator U?
IGLOO nano Low-Power Flash 1.5V FPGA with Flash*Freeze, 23 User IOs, 10K System Gates, 1Kbit Flash ROM, 36-Pin Micro CSP, F Speed Grade, Commercial Grade, Pb-Free; ComponentAvailability: F speed grade removed in ver0.7, Apr-2009 datasheet.; Published: 29-May-2009; DatasheetVersion: v0.6, Feb-2009; PackageVersion: ver11.2, Nov-2009; PackageReference: uC36; Publisher: Altium Limited; PackageDescription: 36-Ball Chip Scale Ball Grid Array 0.4 mm Pitch (uC36); ComponentLink1Description: IGLOO nano Datasheet; ComponentLink1URL: http://www.actel.com/documents/IGLOO_nano_DS.pdf; ComponentLink2Description: Package Mechanical Drawings; ComponentLink2URL: http://www.actel.com/documents/PckgMechDrwngs.pdf; ComponentLink3Description: IGLOO nano Documents; ComponentLink3URL: http://www.actel.com/products/igloonano/docs.aspx; ComponentLink4Description: Actel.com Home; ComponentLink4URL: http://www.actel.com/
footprint UC36 (BGA, 36-Leads, Body 3x3mm, Pitch 0.4mm)
signal-integrity model AGLN010-UC36 (IGLOO nano)
part A pins: A4 GDC0/IO00RSB0 (io), A5 IO06RSB0 (io), A6 GDA0/IO04RSB0 (io), B4 IO09RSB0 (io), B5 IO08RSB0 (io), B6 IO07RSB0 (io), C6 IO02RSB0 (io), D5 IO10RSB0 (io), D6 IO11RSB0 (io)
part B pins: A1 IO21RSB1 (io), A2 IO18RSB1 (io), A3 IO13RSB1 (io), B1 GEC0/IO37RSB1 (io), B2 IO20RSB1 (io), B3 IO15RSB1 (io), C1 IO22RSB1 (io), C2 GEA0/IO34RSB1 (io), D1 IO33RSB1 (io), E1 IO32RSB1 (io), E2 FF/IO31RSB1 (io), F1 IO29RSB1 (io), F2 IO25RSB1 (io), F3 IO23RSB1 (io)
part C pins: E3 TCK (in), E5 TRST (in), F4 TDI (in), F5 TMS (in), F6 TDO (out)
part D pins: C5 VCCIB0 (power), D2 VCCIB1 (power), D3 VCC (power), D4 VCC (power), E4 VPUMP (power), E6 VJTAG (power)
part E pins: C3 GND (power), C4 GND (power)
part A text: BANK 0
part B text: BANK 1

## AGLN010V5-QN48
designator U?
IGLOO nano Low-Power Flash 1.5V FPGA with Flash*Freeze, 34 User IOs, 10K System Gates, 1Kbit Flash ROM, 48-Pin QFN, Commercial Grade; Published: 29-May-2009; LatestRevisionDate: 26-Feb-2010; LatestRevisionNote: Updated to datasheet version 0.8 Jan-2010.; DatasheetVersion: v0.8, Jan-2010; PackageVersion: ver11.2, Nov-2009; PackageReference: QN48; Publisher: Altium Limited; PackageDescription: 48-Pin Quad Flat No-Lead 0.4 mm Pitch (QN48); Code_JEDEC: MO-220-VLLE-1; ComponentLink1Description: IGLOO nano Datasheet; ComponentLink1URL: http://www.actel.com/documents/IGLOO_nano_DS.pdf; ComponentLink2Description: Package Mechanical Drawings; ComponentLink2URL: http://www.actel.com/documents/PckgMechDrwngs.pdf; ComponentLink3Description: IGLOO nano Documents; ComponentLink3URL: http://www.actel.com/products/igloonano/docs.aspx; ComponentLink4Description: Actel.com Home; ComponentLink4URL: http://www.actel.com/
footprint QN48_N (QFN, 48-Leads, Body 6x6 mm, Pitch 0.4mm, IPC Medium Density)
footprint QN48_L (QFN, 48-Leads, Body 6x6 mm, Pitch 0.4mm, IPC High Density)
footprint QN48_M (QFN, 48-Leads, Body 6x6 mm, Pitch 0.4mm, IPC Low Density)
signal-integrity model AGLN010-QN48 (IGLOO nano)
part A pins: 29 IO11RSB0 (io), 30 IO10RSB0 (io), 31 IO09RSB0 (io), 32 IO08RSB0 (io), 36 IO07RSB0 (io), 37 IO06RSB0 (io), 38 GDA0/IO05RSB0 (io), 39 IO03RSB0 (io), 40 GDC0/IO01RSB0 (io)
part B pins: 1 GEC0/IO37RSB1 (io), 2 IO36RSB1 (io), 3 GEA0/IO34RSB1 (io), 4 IO22RSB1 (io), 7 IO24RSB1 (io), 8 IO33RSB1 (io), 9 IO26RSB1 (io), 10 IO32RSB1 (io), 11 IO27RSB1 (io), 12 IO29RSB1 (io), 13 IO30RSB1 (io), 14 FF/IO31RSB1 (io), 15 IO28RSB1 (io), 16 IO25RSB1 (io), 17 IO23RSB1 (io), 20 IO17RSB1 (io), 21 IO14RSB1 (io), 41 IO12RSB1 (io), 42 IO13RSB1 (io), 43 IO15RSB1 (io), 44 IO16RSB1 (io), 45 IO18RSB1 (io), 46 IO19RSB1 (io), 47 IO20RSB1 (io), 48 IO21RSB1 (io)
part C pins: 22 TCK (in), 23 TDI (in), 24 TMS (in), 26 TDO (out), 27 TRST (in)
part D pins: 6 VCCIB1 (power), 18 VCC (power), 19 VCCIB1 (power), 25 VPUMP (power), 28 VJTAG (power), 33 VCCIB0 (power), 35 VCC (power)
part E pins: 5 GND (power), 34 GND (power), 49 Thermal Pad
part A text: BANK 0
part B text: BANK 1

## AGLN010V5-QN48I
designator U?
IGLOO nano Low-Power Flash 1.5V FPGA with Flash*Freeze, 34 User IOs, 10K System Gates, 1Kbit Flash ROM, 48-Pin QFN, Industrial Grade; Published: 29-May-2009; LatestRevisionDate: 26-Feb-2010; LatestRevisionNote: Updated to datasheet version 0.8 Jan-2010.; DatasheetVersion: v0.8, Jan-2010; PackageVersion: ver11.2, Nov-2009; PackageReference: QN48; Publisher: Altium Limited; PackageDescription: 48-Pin Quad Flat No-Lead 0.4 mm Pitch (QN48); Code_JEDEC: MO-220-VLLE-1; ComponentLink1Description: IGLOO nano Datasheet; ComponentLink1URL: http://www.actel.com/documents/IGLOO_nano_DS.pdf; ComponentLink2Description: Package Mechanical Drawings; ComponentLink2URL: http://www.actel.com/documents/PckgMechDrwngs.pdf; ComponentLink3Description: IGLOO nano Documents; ComponentLink3URL: http://www.actel.com/products/igloonano/docs.aspx; ComponentLink4Description: Actel.com Home; ComponentLink4URL: http://www.actel.com/
footprint QN48_N (QFN, 48-Leads, Body 6x6 mm, Pitch 0.4mm, IPC Medium Density)
footprint QN48_L (QFN, 48-Leads, Body 6x6 mm, Pitch 0.4mm, IPC High Density)
footprint QN48_M (QFN, 48-Leads, Body 6x6 mm, Pitch 0.4mm, IPC Low Density)
signal-integrity model AGLN010-QN48 (IGLOO nano)
part A pins: 29 IO11RSB0 (io), 30 IO10RSB0 (io), 31 IO09RSB0 (io), 32 IO08RSB0 (io), 36 IO07RSB0 (io), 37 IO06RSB0 (io), 38 GDA0/IO05RSB0 (io), 39 IO03RSB0 (io), 40 GDC0/IO01RSB0 (io)
part B pins: 1 GEC0/IO37RSB1 (io), 2 IO36RSB1 (io), 3 GEA0/IO34RSB1 (io), 4 IO22RSB1 (io), 7 IO24RSB1 (io), 8 IO33RSB1 (io), 9 IO26RSB1 (io), 10 IO32RSB1 (io), 11 IO27RSB1 (io), 12 IO29RSB1 (io), 13 IO30RSB1 (io), 14 FF/IO31RSB1 (io), 15 IO28RSB1 (io), 16 IO25RSB1 (io), 17 IO23RSB1 (io), 20 IO17RSB1 (io), 21 IO14RSB1 (io), 41 IO12RSB1 (io), 42 IO13RSB1 (io), 43 IO15RSB1 (io), 44 IO16RSB1 (io), 45 IO18RSB1 (io), 46 IO19RSB1 (io), 47 IO20RSB1 (io), 48 IO21RSB1 (io)
part C pins: 22 TCK (in), 23 TDI (in), 24 TMS (in), 26 TDO (out), 27 TRST (in)
part D pins: 6 VCCIB1 (power), 18 VCC (power), 19 VCCIB1 (power), 25 VPUMP (power), 28 VJTAG (power), 33 VCCIB0 (power), 35 VCC (power)
part E pins: 5 GND (power), 34 GND (power), 49 Thermal Pad
part A text: BANK 0
part B text: BANK 1

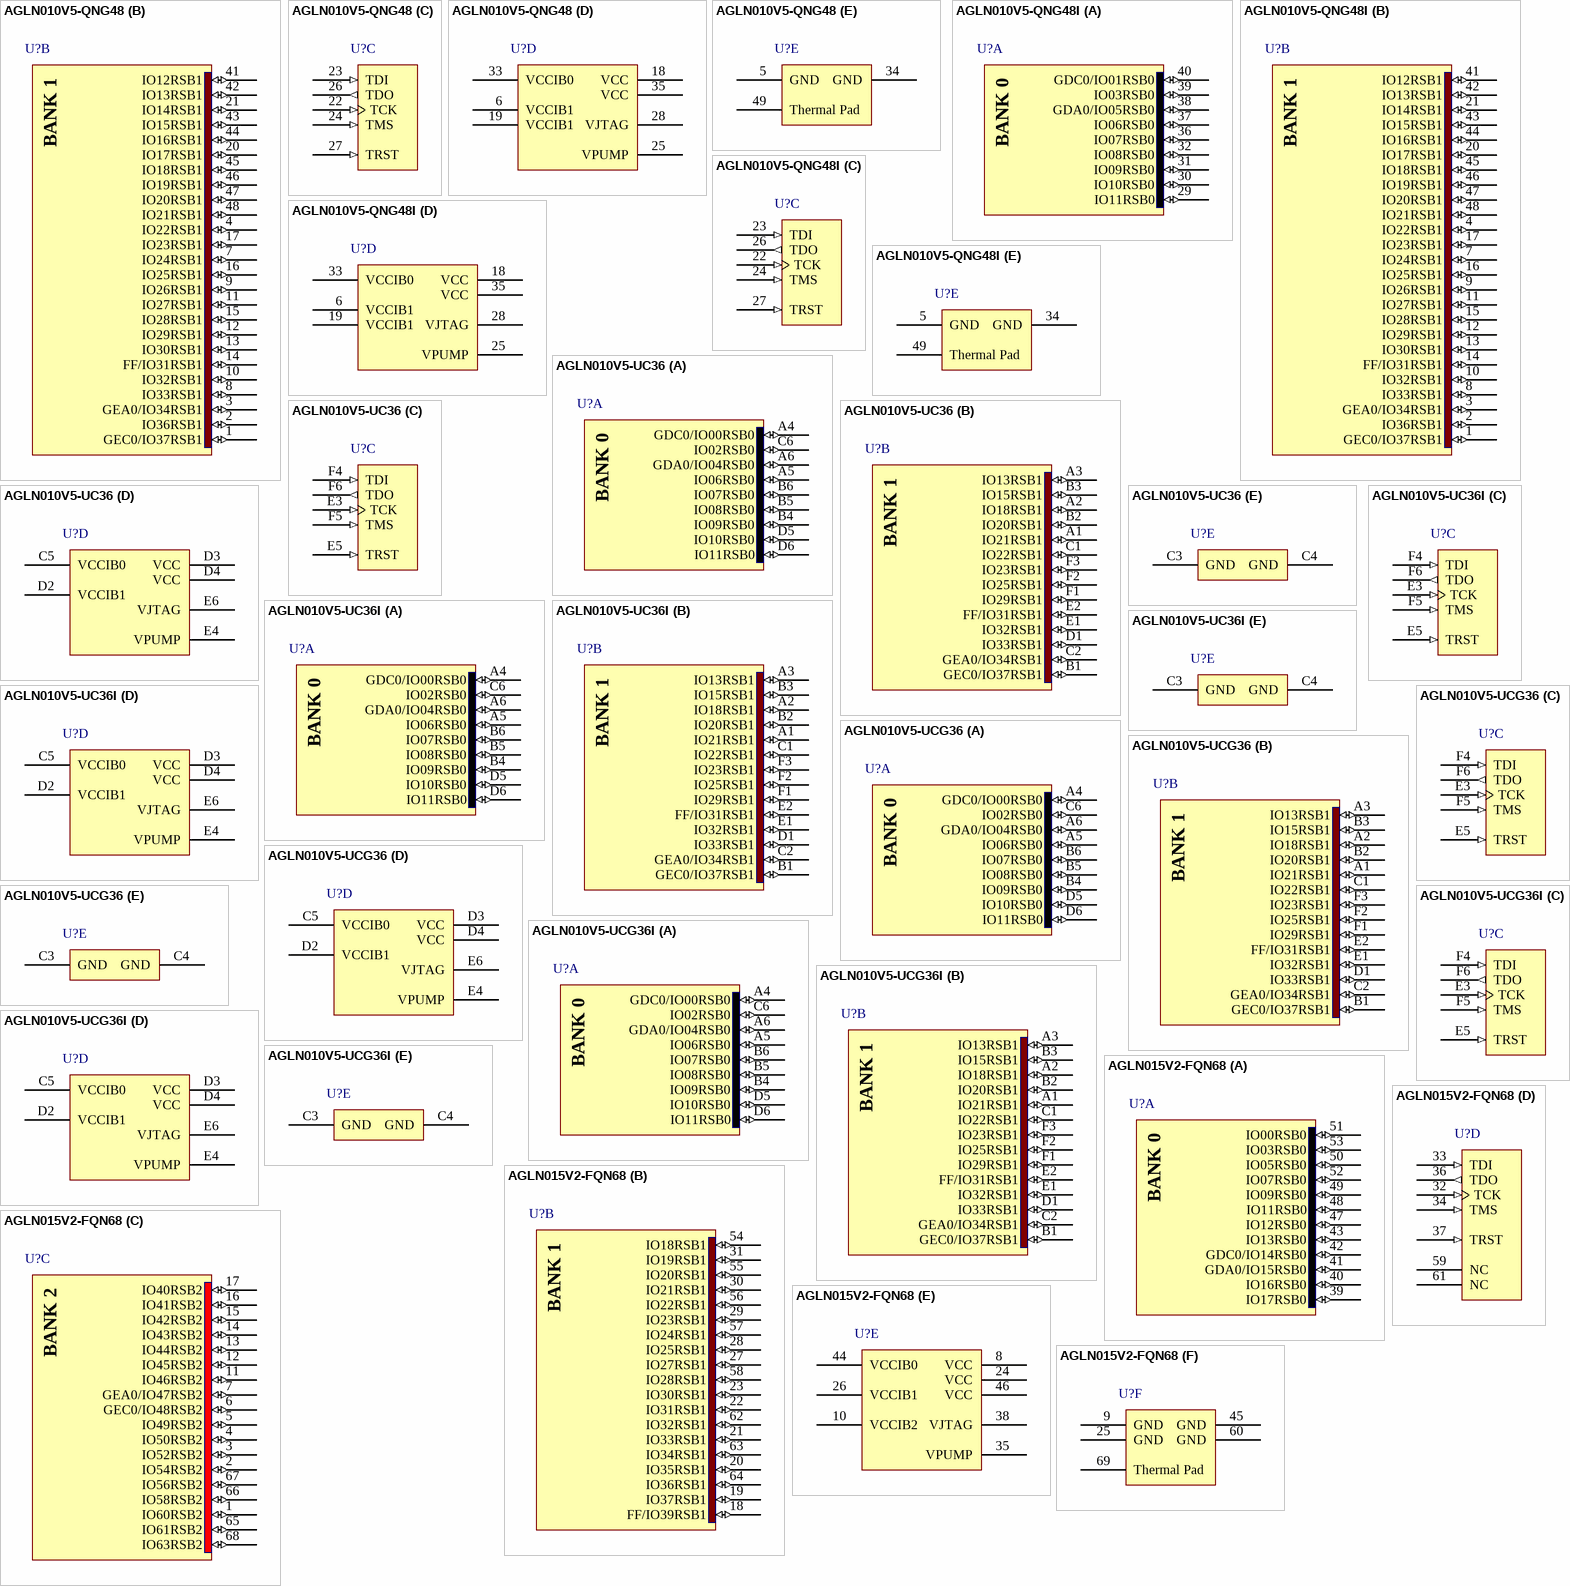
[diagram p3: symbols AGLN010V5-QNG48 to AGLN015V2-FQN68]

## AGLN010V5-QNG48
designator U?
IGLOO nano Low-Power Flash 1.5V FPGA with Flash*Freeze, 34 User IOs, 10K System Gates, 1Kbit Flash ROM, 48-Pin QFN, Commercial Grade, Pb-Free; Published: 29-May-2009; LatestRevisionDate: 26-Feb-2010; LatestRevisionNote: Updated to datasheet version 0.8 Jan-2010.; DatasheetVersion: v0.8, Jan-2010; PackageVersion: ver11.2, Nov-2009; PackageReference: QN48; Publisher: Altium Limited; PackageDescription: 48-Pin Quad Flat No-Lead 0.4 mm Pitch (QN48); Code_JEDEC: MO-220-VLLE-1; ComponentLink1Description: IGLOO nano Datasheet; ComponentLink1URL: http://www.actel.com/documents/IGLOO_nano_DS.pdf; ComponentLink2Description: Package Mechanical Drawings; ComponentLink2URL: http://www.actel.com/documents/PckgMechDrwngs.pdf; ComponentLink3Description: IGLOO nano Documents; ComponentLink3URL: http://www.actel.com/products/igloonano/docs.aspx; ComponentLink4Description: Actel.com Home; ComponentLink4URL: http://www.actel.com/
footprint QN48_N (QFN, 48-Leads, Body 6x6 mm, Pitch 0.4mm, IPC Medium Density)
footprint QN48_L (QFN, 48-Leads, Body 6x6 mm, Pitch 0.4mm, IPC High Density)
footprint QN48_M (QFN, 48-Leads, Body 6x6 mm, Pitch 0.4mm, IPC Low Density)
signal-integrity model AGLN010-QN48 (IGLOO nano)
part A pins: 29 IO11RSB0 (io), 30 IO10RSB0 (io), 31 IO09RSB0 (io), 32 IO08RSB0 (io), 36 IO07RSB0 (io), 37 IO06RSB0 (io), 38 GDA0/IO05RSB0 (io), 39 IO03RSB0 (io), 40 GDC0/IO01RSB0 (io)
part B pins: 1 GEC0/IO37RSB1 (io), 2 IO36RSB1 (io), 3 GEA0/IO34RSB1 (io), 4 IO22RSB1 (io), 7 IO24RSB1 (io), 8 IO33RSB1 (io), 9 IO26RSB1 (io), 10 IO32RSB1 (io), 11 IO27RSB1 (io), 12 IO29RSB1 (io), 13 IO30RSB1 (io), 14 FF/IO31RSB1 (io), 15 IO28RSB1 (io), 16 IO25RSB1 (io), 17 IO23RSB1 (io), 20 IO17RSB1 (io), 21 IO14RSB1 (io), 41 IO12RSB1 (io), 42 IO13RSB1 (io), 43 IO15RSB1 (io), 44 IO16RSB1 (io), 45 IO18RSB1 (io), 46 IO19RSB1 (io), 47 IO20RSB1 (io), 48 IO21RSB1 (io)
part C pins: 22 TCK (in), 23 TDI (in), 24 TMS (in), 26 TDO (out), 27 TRST (in)
part D pins: 6 VCCIB1 (power), 18 VCC (power), 19 VCCIB1 (power), 25 VPUMP (power), 28 VJTAG (power), 33 VCCIB0 (power), 35 VCC (power)
part E pins: 5 GND (power), 34 GND (power), 49 Thermal Pad
part A text: BANK 0
part B text: BANK 1

## AGLN010V5-QNG48I
designator U?
IGLOO nano Low-Power Flash 1.5V FPGA with Flash*Freeze, 34 User IOs, 10K System Gates, 1Kbit Flash ROM, 48-Pin QFN, Industrial Grade, Pb-Free; Published: 29-May-2009; LatestRevisionDate: 26-Feb-2010; LatestRevisionNote: Updated to datasheet version 0.8 Jan-2010.; DatasheetVersion: v0.8, Jan-2010; PackageVersion: ver11.2, Nov-2009; PackageReference: QN48; Publisher: Altium Limited; PackageDescription: 48-Pin Quad Flat No-Lead 0.4 mm Pitch (QN48); Code_JEDEC: MO-220-VLLE-1; ComponentLink1Description: IGLOO nano Datasheet; ComponentLink1URL: http://www.actel.com/documents/IGLOO_nano_DS.pdf; ComponentLink2Description: Package Mechanical Drawings; ComponentLink2URL: http://www.actel.com/documents/PckgMechDrwngs.pdf; ComponentLink3Description: IGLOO nano Documents; ComponentLink3URL: http://www.actel.com/products/igloonano/docs.aspx; ComponentLink4Description: Actel.com Home; ComponentLink4URL: http://www.actel.com/
footprint QN48_N (QFN, 48-Leads, Body 6x6 mm, Pitch 0.4mm, IPC Medium Density)
footprint QN48_L (QFN, 48-Leads, Body 6x6 mm, Pitch 0.4mm, IPC High Density)
footprint QN48_M (QFN, 48-Leads, Body 6x6 mm, Pitch 0.4mm, IPC Low Density)
signal-integrity model AGLN010-QN48 (IGLOO nano)
part A pins: 29 IO11RSB0 (io), 30 IO10RSB0 (io), 31 IO09RSB0 (io), 32 IO08RSB0 (io), 36 IO07RSB0 (io), 37 IO06RSB0 (io), 38 GDA0/IO05RSB0 (io), 39 IO03RSB0 (io), 40 GDC0/IO01RSB0 (io)
part B pins: 1 GEC0/IO37RSB1 (io), 2 IO36RSB1 (io), 3 GEA0/IO34RSB1 (io), 4 IO22RSB1 (io), 7 IO24RSB1 (io), 8 IO33RSB1 (io), 9 IO26RSB1 (io), 10 IO32RSB1 (io), 11 IO27RSB1 (io), 12 IO29RSB1 (io), 13 IO30RSB1 (io), 14 FF/IO31RSB1 (io), 15 IO28RSB1 (io), 16 IO25RSB1 (io), 17 IO23RSB1 (io), 20 IO17RSB1 (io), 21 IO14RSB1 (io), 41 IO12RSB1 (io), 42 IO13RSB1 (io), 43 IO15RSB1 (io), 44 IO16RSB1 (io), 45 IO18RSB1 (io), 46 IO19RSB1 (io), 47 IO20RSB1 (io), 48 IO21RSB1 (io)
part C pins: 22 TCK (in), 23 TDI (in), 24 TMS (in), 26 TDO (out), 27 TRST (in)
part D pins: 6 VCCIB1 (power), 18 VCC (power), 19 VCCIB1 (power), 25 VPUMP (power), 28 VJTAG (power), 33 VCCIB0 (power), 35 VCC (power)
part E pins: 5 GND (power), 34 GND (power), 49 Thermal Pad
part A text: BANK 0
part B text: BANK 1

## AGLN010V5-UC36
designator U?
IGLOO nano Low-Power Flash 1.5V FPGA with Flash*Freeze, 23 User IOs, 10K System Gates, 1Kbit Flash ROM, 36-Pin Micro CSP, Commercial Grade; Published: 29-May-2009; LatestRevisionDate: 26-Feb-2010; LatestRevisionNote: Updated to datasheet version 0.8 Jan-2010.; DatasheetVersion: v0.8, Jan-2010; PackageVersion: ver11.2, Nov-2009; PackageReference: uC36; Publisher: Altium Limited; PackageDescription: 36-Ball Chip Scale Ball Grid Array 0.4 mm Pitch (uC36); ComponentLink1Description: IGLOO nano Datasheet; ComponentLink1URL: http://www.actel.com/documents/IGLOO_nano_DS.pdf; ComponentLink2Description: Package Mechanical Drawings; ComponentLink2URL: http://www.actel.com/documents/PckgMechDrwngs.pdf; ComponentLink3Description: IGLOO nano Documents; ComponentLink3URL: http://www.actel.com/products/igloonano/docs.aspx; ComponentLink4Description: Actel.com Home; ComponentLink4URL: http://www.actel.com/
footprint UC36 (BGA, 36-Leads, Body 3x3mm, Pitch 0.4mm)
signal-integrity model AGLN010-UC36 (IGLOO nano)
part A pins: A4 GDC0/IO00RSB0 (io), A5 IO06RSB0 (io), A6 GDA0/IO04RSB0 (io), B4 IO09RSB0 (io), B5 IO08RSB0 (io), B6 IO07RSB0 (io), C6 IO02RSB0 (io), D5 IO10RSB0 (io), D6 IO11RSB0 (io)
part B pins: A1 IO21RSB1 (io), A2 IO18RSB1 (io), A3 IO13RSB1 (io), B1 GEC0/IO37RSB1 (io), B2 IO20RSB1 (io), B3 IO15RSB1 (io), C1 IO22RSB1 (io), C2 GEA0/IO34RSB1 (io), D1 IO33RSB1 (io), E1 IO32RSB1 (io), E2 FF/IO31RSB1 (io), F1 IO29RSB1 (io), F2 IO25RSB1 (io), F3 IO23RSB1 (io)
part C pins: E3 TCK (in), E5 TRST (in), F4 TDI (in), F5 TMS (in), F6 TDO (out)
part D pins: C5 VCCIB0 (power), D2 VCCIB1 (power), D3 VCC (power), D4 VCC (power), E4 VPUMP (power), E6 VJTAG (power)
part E pins: C3 GND (power), C4 GND (power)
part A text: BANK 0
part B text: BANK 1

## AGLN010V5-UC36I
designator U?
IGLOO nano Low-Power Flash 1.5V FPGA with Flash*Freeze, 23 User IOs, 10K System Gates, 1Kbit Flash ROM, 36-Pin Micro CSP, Industrial Grade; Published: 29-May-2009; LatestRevisionDate: 26-Feb-2010; LatestRevisionNote: Updated to datasheet version 0.8 Jan-2010.; DatasheetVersion: v0.8, Jan-2010; PackageVersion: ver11.2, Nov-2009; PackageReference: uC36; Publisher: Altium Limited; PackageDescription: 36-Ball Chip Scale Ball Grid Array 0.4 mm Pitch (uC36); ComponentLink1Description: IGLOO nano Datasheet; ComponentLink1URL: http://www.actel.com/documents/IGLOO_nano_DS.pdf; ComponentLink2Description: Package Mechanical Drawings; ComponentLink2URL: http://www.actel.com/documents/PckgMechDrwngs.pdf; ComponentLink3Description: IGLOO nano Documents; ComponentLink3URL: http://www.actel.com/products/igloonano/docs.aspx; ComponentLink4Description: Actel.com Home; ComponentLink4URL: http://www.actel.com/
footprint UC36 (BGA, 36-Leads, Body 3x3mm, Pitch 0.4mm)
signal-integrity model AGLN010-UC36 (IGLOO nano)
part A pins: A4 GDC0/IO00RSB0 (io), A5 IO06RSB0 (io), A6 GDA0/IO04RSB0 (io), B4 IO09RSB0 (io), B5 IO08RSB0 (io), B6 IO07RSB0 (io), C6 IO02RSB0 (io), D5 IO10RSB0 (io), D6 IO11RSB0 (io)
part B pins: A1 IO21RSB1 (io), A2 IO18RSB1 (io), A3 IO13RSB1 (io), B1 GEC0/IO37RSB1 (io), B2 IO20RSB1 (io), B3 IO15RSB1 (io), C1 IO22RSB1 (io), C2 GEA0/IO34RSB1 (io), D1 IO33RSB1 (io), E1 IO32RSB1 (io), E2 FF/IO31RSB1 (io), F1 IO29RSB1 (io), F2 IO25RSB1 (io), F3 IO23RSB1 (io)
part C pins: E3 TCK (in), E5 TRST (in), F4 TDI (in), F5 TMS (in), F6 TDO (out)
part D pins: C5 VCCIB0 (power), D2 VCCIB1 (power), D3 VCC (power), D4 VCC (power), E4 VPUMP (power), E6 VJTAG (power)
part E pins: C3 GND (power), C4 GND (power)
part A text: BANK 0
part B text: BANK 1

## AGLN010V5-UCG36
designator U?
IGLOO nano Low-Power Flash 1.5V FPGA with Flash*Freeze, 23 User IOs, 10K System Gates, 1Kbit Flash ROM, 36-Pin Micro CSP, Commercial Grade, Pb-Free; Published: 29-May-2009; LatestRevisionDate: 26-Feb-2010; LatestRevisionNote: Updated to datasheet version 0.8 Jan-2010.; DatasheetVersion: v0.8, Jan-2010; PackageVersion: ver11.2, Nov-2009; PackageReference: uC36; Publisher: Altium Limited; PackageDescription: 36-Ball Chip Scale Ball Grid Array 0.4 mm Pitch (uC36); ComponentLink1Description: IGLOO nano Datasheet; ComponentLink1URL: http://www.actel.com/documents/IGLOO_nano_DS.pdf; ComponentLink2Description: Package Mechanical Drawings; ComponentLink2URL: http://www.actel.com/documents/PckgMechDrwngs.pdf; ComponentLink3Description: IGLOO nano Documents; ComponentLink3URL: http://www.actel.com/products/igloonano/docs.aspx; ComponentLink4Description: Actel.com Home; ComponentLink4URL: http://www.actel.com/
footprint UC36 (BGA, 36-Leads, Body 3x3mm, Pitch 0.4mm)
signal-integrity model AGLN010-UC36 (IGLOO nano)
part A pins: A4 GDC0/IO00RSB0 (io), A5 IO06RSB0 (io), A6 GDA0/IO04RSB0 (io), B4 IO09RSB0 (io), B5 IO08RSB0 (io), B6 IO07RSB0 (io), C6 IO02RSB0 (io), D5 IO10RSB0 (io), D6 IO11RSB0 (io)
part B pins: A1 IO21RSB1 (io), A2 IO18RSB1 (io), A3 IO13RSB1 (io), B1 GEC0/IO37RSB1 (io), B2 IO20RSB1 (io), B3 IO15RSB1 (io), C1 IO22RSB1 (io), C2 GEA0/IO34RSB1 (io), D1 IO33RSB1 (io), E1 IO32RSB1 (io), E2 FF/IO31RSB1 (io), F1 IO29RSB1 (io), F2 IO25RSB1 (io), F3 IO23RSB1 (io)
part C pins: E3 TCK (in), E5 TRST (in), F4 TDI (in), F5 TMS (in), F6 TDO (out)
part D pins: C5 VCCIB0 (power), D2 VCCIB1 (power), D3 VCC (power), D4 VCC (power), E4 VPUMP (power), E6 VJTAG (power)
part E pins: C3 GND (power), C4 GND (power)
part A text: BANK 0
part B text: BANK 1

## AGLN010V5-UCG36I
designator U?
IGLOO nano Low-Power Flash 1.5V FPGA with Flash*Freeze, 23 User IOs, 10K System Gates, 1Kbit Flash ROM, 36-Pin Micro CSP, Industrial Grade, Pb-Free; Published: 29-May-2009; LatestRevisionDate: 26-Feb-2010; LatestRevisionNote: Updated to datasheet version 0.8 Jan-2010.; DatasheetVersion: v0.8, Jan-2010; PackageVersion: ver11.2, Nov-2009; PackageReference: uC36; Publisher: Altium Limited; PackageDescription: 36-Ball Chip Scale Ball Grid Array 0.4 mm Pitch (uC36); ComponentLink1Description: IGLOO nano Datasheet; ComponentLink1URL: http://www.actel.com/documents/IGLOO_nano_DS.pdf; ComponentLink2Description: Package Mechanical Drawings; ComponentLink2URL: http://www.actel.com/documents/PckgMechDrwngs.pdf; ComponentLink3Description: IGLOO nano Documents; ComponentLink3URL: http://www.actel.com/products/igloonano/docs.aspx; ComponentLink4Description: Actel.com Home; ComponentLink4URL: http://www.actel.com/
footprint UC36 (BGA, 36-Leads, Body 3x3mm, Pitch 0.4mm)
signal-integrity model AGLN010-UC36 (IGLOO nano)
part A pins: A4 GDC0/IO00RSB0 (io), A5 IO06RSB0 (io), A6 GDA0/IO04RSB0 (io), B4 IO09RSB0 (io), B5 IO08RSB0 (io), B6 IO07RSB0 (io), C6 IO02RSB0 (io), D5 IO10RSB0 (io), D6 IO11RSB0 (io)
part B pins: A1 IO21RSB1 (io), A2 IO18RSB1 (io), A3 IO13RSB1 (io), B1 GEC0/IO37RSB1 (io), B2 IO20RSB1 (io), B3 IO15RSB1 (io), C1 IO22RSB1 (io), C2 GEA0/IO34RSB1 (io), D1 IO33RSB1 (io), E1 IO32RSB1 (io), E2 FF/IO31RSB1 (io), F1 IO29RSB1 (io), F2 IO25RSB1 (io), F3 IO23RSB1 (io)
part C pins: E3 TCK (in), E5 TRST (in), F4 TDI (in), F5 TMS (in), F6 TDO (out)
part D pins: C5 VCCIB0 (power), D2 VCCIB1 (power), D3 VCC (power), D4 VCC (power), E4 VPUMP (power), E6 VJTAG (power)
part E pins: C3 GND (power), C4 GND (power)
part A text: BANK 0
part B text: BANK 1

## AGLN015V2-FQN68
designator U?
IGLOO nano Low-Power Flash 1.2 to 1.5V FPGA with Flash*Freeze, 49 User IOs, 15K System Gates, 1Kbit Flash ROM, 68-Pin QFN, F Speed Grade, Commercial Grade; ComponentAvailability: F speed grade removed in ver0.7, Apr-2009 datasheet.; Published: 29-May-2009; DatasheetVersion: v0.6, Feb-2009; PackageVersion: ver11.2, Nov-2009; PackageReference: QN68; Publisher: Altium Limited; PackageDescription: 68-Pin Quad Flat No-Lead 0.4 mm Pitch (QN68); Code_JEDEC: MO-220-VLLE-1; ComponentLink1Description: IGLOO nano Datasheet; ComponentLink1URL: http://www.actel.com/documents/IGLOO_nano_DS.pdf; ComponentLink2Description: Package Mechanical Drawings; ComponentLink2URL: http://www.actel.com/documents/PckgMechDrwngs.pdf; ComponentLink3Description: IGLOO nano Documents; ComponentLink3URL: http://www.actel.com/products/igloonano/docs.aspx; ComponentLink4Description: Actel.com Home; ComponentLink4URL: http://www.actel.com/
footprint QN68_N (QFN, 68-Leads, Body 8x8 mm, Pitch 0.4mm, IPC Medium Density)
footprint QN68_L (QFN, 68-Leads, Body 8x8 mm, Pitch 0.4mm, IPC High Density)
footprint QN68_M (QFN, 68-Leads, Body 8x8 mm, Pitch 0.4mm, IPC Low Density)
signal-integrity model AGLN015-QN68 (IGLOO nano)
part A pins: 39 IO17RSB0 (io), 40 IO16RSB0 (io), 41 GDA0/IO15RSB0 (io), 42 GDC0/IO14RSB0 (io), 43 IO13RSB0 (io), 47 IO12RSB0 (io), 48 IO11RSB0 (io), 49 IO09RSB0 (io), 50 IO05RSB0 (io), 51 IO00RSB0 (io), 52 IO07RSB0 (io), 53 IO03RSB0 (io)
part B pins: 18 FF/IO39RSB1 (io), 19 IO37RSB1 (io), 20 IO35RSB1 (io), 21 IO33RSB1 (io), 22 IO31RSB1 (io), 23 IO30RSB1 (io), 27 IO27RSB1 (io), 28 IO25RSB1 (io), 29 IO23RSB1 (io), 30 IO21RSB1 (io), 31 IO19RSB1 (io), 54 IO18RSB1 (io), 55 IO20RSB1 (io), 56 IO22RSB1 (io), 57 IO24RSB1 (io), 58 IO28RSB1 (io), 62 IO32RSB1 (io), 63 IO34RSB1 (io), 64 IO36RSB1 (io)
part C pins: 1 IO60RSB2 (io), 2 IO54RSB2 (io), 3 IO52RSB2 (io), 4 IO50RSB2 (io), 5 IO49RSB2 (io), 6 GEC0/IO48RSB2 (io), 7 GEA0/IO47RSB2 (io), 11 IO46RSB2 (io), 12 IO45RSB2 (io), 13 IO44RSB2 (io), 14 IO43RSB2 (io), 15 IO42RSB2 (io), 16 IO41RSB2 (io), 17 IO40RSB2 (io), 65 IO61RSB2 (io), 66 IO58RSB2 (io), 67 IO56RSB2 (io), 68 IO63RSB2 (io)
part D pins: 32 TCK (in), 33 TDI (in), 34 TMS (in), 36 TDO (out), 37 TRST (in), 59 NC, 61 NC
part E pins: 8 VCC (power), 10 VCCIB2 (power), 24 VCC (power), 26 VCCIB1 (power), 35 VPUMP (power), 38 VJTAG (power), 44 VCCIB0 (power), 46 VCC (power)
part F pins: 9 GND (power), 25 GND (power), 45 GND (power), 60 GND (power), 69 Thermal Pad
part A text: BANK 0
part B text: BANK 1
part C text: BANK 2

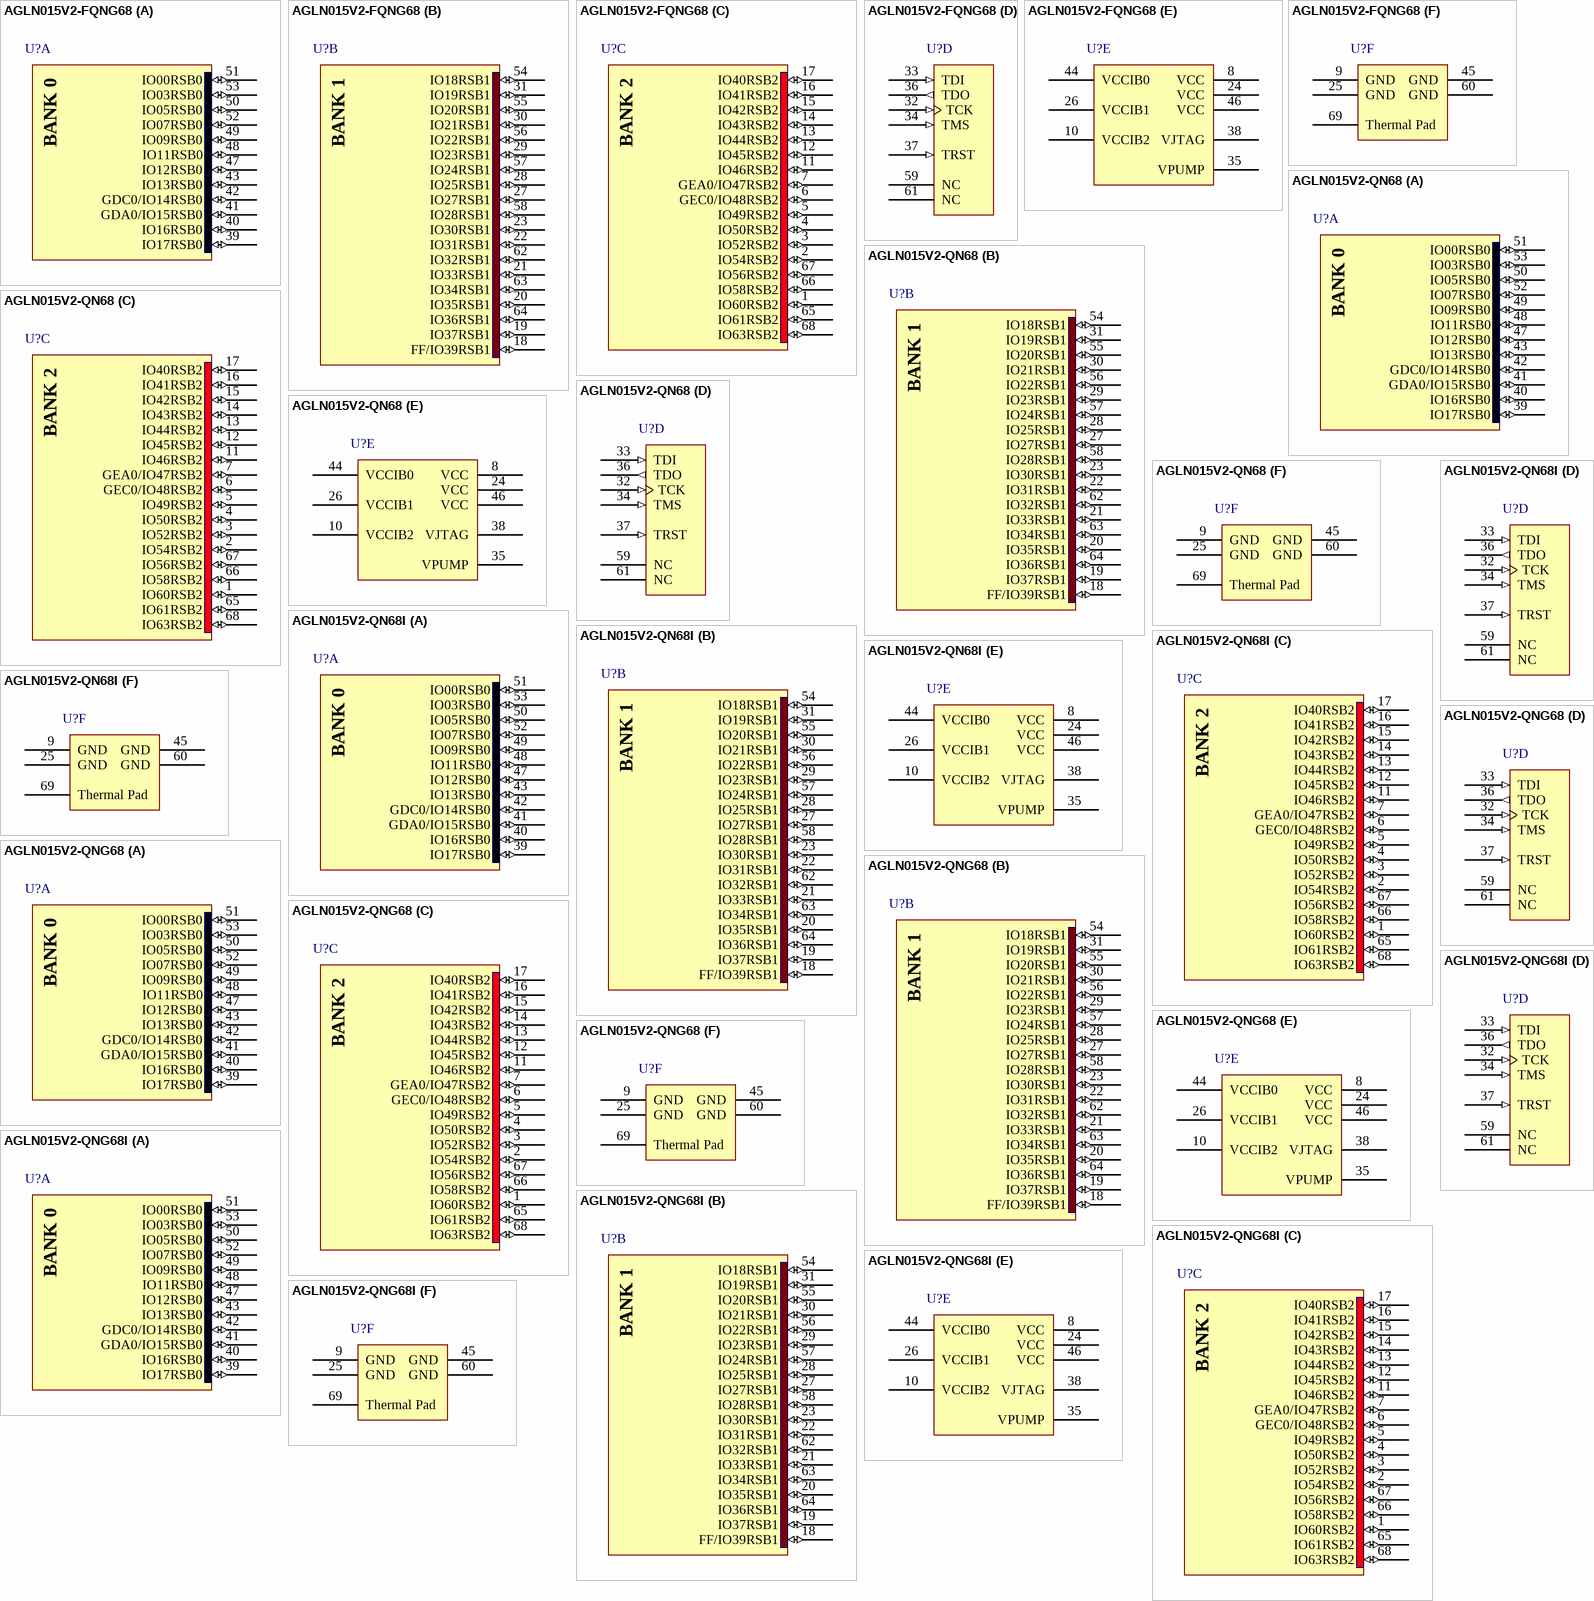
[diagram p4: symbols AGLN015V2-FQNG68 to AGLN015V2-QNG68I]